# Altium schematic symbol library dungvh03-CERN_AnalogInterface.SchLib: 1053 symbols (part 12 of 12)
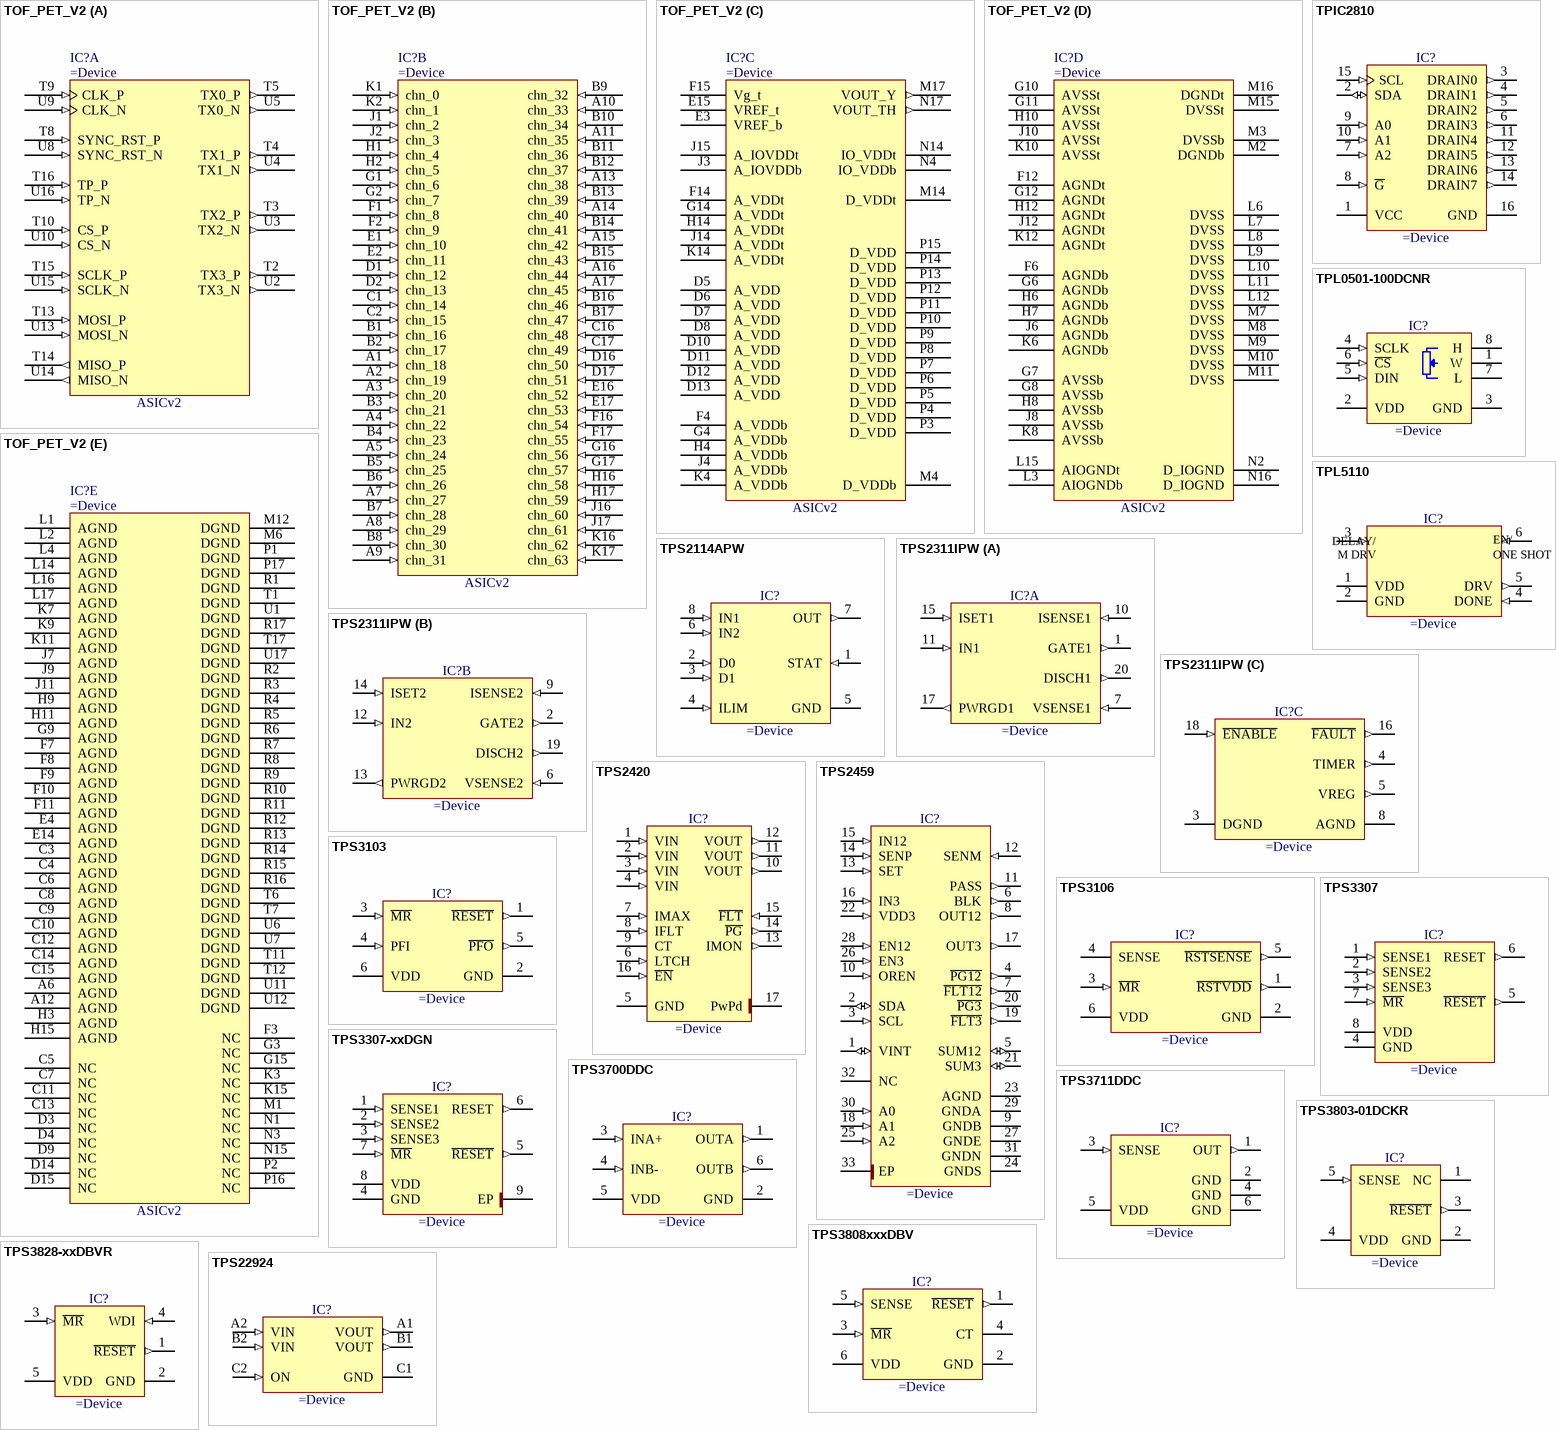
[diagram p78: symbols TOF_PET_V2 to TPS22924]

## TOF_PET_V2
designator IC?
ASIC for Reading SIPMs
part A pins: T2 TX3_P (out), T3 TX2_P (out), T4 TX1_P (out), T5 TX0_P (out), T8 SYNC_RST_P (in), T9 CLK_P (in), T10 CS_P (in), T13 MOSI_P (in), T14 MISO_P (out), T15 SCLK_P (in), T16 TP_P (in), U2 TX3_N (out), U3 TX2_N (out), U4 TX1_N (out), U5 TX0_N (out), U8 SYNC_RST_N (in), U9 CLK_N (in), U10 CS_N (in), U13 MOSI_N (in), U14 MISO_N (out), U15 SCLK_N (in), U16 TP_N (in)
part B pins: A1 chn_18 (in), A2 chn_19 (in), A3 chn_20 (in), A4 chn_22 (in), A5 chn_24 (in), A7 chn_27 (in), A8 chn_29 (in), A9 chn_31 (in), A10 chn_33 (in), A11 chn_35 (in), A13 chn_38 (in), A14 chn_40 (in), A15 chn_42 (in), A16 chn_44 (in), A17 chn_45 (in), B1 chn_16 (in), B2 chn_17 (in), B3 chn_21 (in), B4 chn_23 (in), B5 chn_25 (in), B6 chn_26 (in), B7 chn_28 (in), B8 chn_30 (in), B9 chn_32 (in), B10 chn_34 (in), B11 chn_36 (in), B12 chn_37 (in), B13 chn_39 (in), B14 chn_41 (in), B15 chn_43 (in), B16 chn_46 (in), B17 chn_47 (in), C1 chn_14 (in), C2 chn_15 (in), C16 chn_48 (in), C17 chn_49 (in), D1 chn_12 (in), D2 chn_13 (in), D16 chn_50 (in), D17 chn_51 (in), E1 chn_10 (in), E2 chn_11 (in), E16 chn_52 (in), E17 chn_53 (in), F1 chn_8 (in), F2 chn_9 (in), F16 chn_54 (in), F17 chn_55 (in), G1 chn_6 (in), G2 chn_7 (in), G16 chn_56 (in), G17 chn_57 (in), H1 chn_4 (in), H2 chn_5 (in), H16 chn_58 (in), H17 chn_59 (in), J1 chn_2 (in), J2 chn_3 (in), J16 chn_60 (in), J17 chn_61 (in), K1 chn_0 (in), K2 chn_1 (in), K16 chn_62 (in), K17 chn_63 (in)
part C pins: D5 A_VDD (power), D6 A_VDD (power), D7 A_VDD (power), D8 A_VDD (power), D10 A_VDD (power), D11 A_VDD (power), D12 A_VDD (power), D13 A_VDD (power), E3 VREF_b (power), E15 VREF_t (power), F4 A_VDDb (power), F14 A_VDDt (power), F15 Vg_t (power), G4 A_VDDb (power), G14 A_VDDt (power), H4 A_VDDb (power), H14 A_VDDt (power), J3 A_IOVDDb (power), J4 A_VDDb (power), J14 A_VDDt (power), J15 A_IOVDDt (power), K4 A_VDDb (power), K14 A_VDDt (power), M4 D_VDDb (power), M14 D_VDDt (power), M17 VOUT_Y (out), N4 IO_VDDb (power), N14 IO_VDDt (power), N17 VOUT_TH (out), P3 D_VDD (power), P4 D_VDD (power), P5 D_VDD (power), P6 D_VDD (power), P7 D_VDD (power), P8 D_VDD (power), P9 D_VDD (power), P10 D_VDD (power), P11 D_VDD (power), P12 D_VDD (power), P13 D_VDD (power), P14 D_VDD (power), P15 D_VDD (power)
part D pins: F6 AGNDb (power), F12 AGNDt (power), G6 AGNDb (power), G7 AVSSb (power), G8 AVSSb (power), G10 AVSSt (power), G11 AVSSt (power), G12 AGNDt (power), H6 AGNDb (power), H7 AGNDb (power), H8 AVSSb (power), H10 AVSSt (power), H12 AGNDt (power), J6 AGNDb (power), J8 AVSSb (power), J10 AVSSt (power), J12 AGNDt (power), K6 AGNDb (power), K8 AVSSb (power), K10 AVSSt (power), K12 AGNDt (power), L3 AIOGNDb (power), L6 DVSS (power), L7 DVSS (power), L8 DVSS (power), L9 DVSS (power), L10 DVSS (power), L11 DVSS (power), L12 DVSS (power), L15 AIOGNDt (power), M2 DGNDb (power), M3 DVSSb (power), M7 DVSS (power), M8 DVSS (power), M9 DVSS (power), M10 DVSS (power), M11 DVSS (power), M15 DVSSt (power), M16 DGNDt (power), N2 D_IOGND (power), N16 D_IOGND (power)
part E pins: A6 AGND (power), A12 AGND (power), C3 AGND (power), C4 AGND (power), C5 NC, C6 AGND (power), C7 NC, C8 AGND (power), C9 AGND (power), C10 AGND (power), C11 NC, C12 AGND (power), C13 NC, C14 AGND (power), C15 AGND (power), D3 NC, D4 NC, D9 NC, D14 NC, D15 NC, E4 AGND (power), E14 AGND (power), F3 NC, F7 AGND (power), F8 AGND (power), F9 AGND (power), F10 AGND (power), F11 AGND (power), G3 NC, G9 AGND (power), G15 NC, H3 AGND (power), H9 AGND (power), H11 AGND (power), H15 AGND (power), J7 AGND (power), J9 AGND (power), J11 AGND (power), K3 NC, K7 AGND (power), K9 AGND (power), K11 AGND (power), K15 NC, L1 AGND (power), L2 AGND (power), L4 AGND (power), L14 AGND (power), L16 AGND (power), L17 AGND (power), M1 NC, M6 DGND (power), M12 DGND (power), N1 NC, N3 NC, N15 NC, P1 DGND (power), P2 NC, P16 NC, P17 DGND (power), R1 DGND (power), R2 DGND (power), R3 DGND (power), R4 DGND (power), R5 DGND (power), R6 DGND (power), R7 DGND (power), R8 DGND (power), R9 DGND (power), R10 DGND (power), R11 DGND (power), R12 DGND (power), R13 DGND (power), R14 DGND (power), R15 DGND (power), R16 DGND (power), R17 DGND (power), T1 DGND (power), T6 DGND (power), T7 DGND (power), T11 DGND (power), T12 DGND (power), T17 DGND (power), U1 DGND (power), U6 DGND (power), U7 DGND (power), U11 DGND (power), U12 DGND (power), U17 DGND (power)
part A text: ASICv2
part B text: ASICv2
part C text: ASICv2
part D text: ASICv2
part E text: ASICv2

## TPIC2810
designator IC?
8-Bit LED Driver With I2C Interface
pins: 1 VCC (power) "Positive Power Supply Input.", 2 SDA (io) "Digital I/O. Bidirectional open drain data line. External pull-up resistor required.", 3 DRAIN0 (out) "Can be inputs or outputs.", 4 DRAIN1 (out) "Can be inputs or outputs.", 5 DRAIN2 (out) "Can be inputs or outputs.", 6 DRAIN3 (out) "Can be inputs or outputs.", 7 A2 (in) "Logic Input. Address pin that sets the third least significant bit of the 7-bit slave address.", 8 ~{G} (in) "Active Low Logic Input. When this pin is low, all switches are open, and appropriate registers are cleared to 0.", 9 A0 (in) "Logic Input. Address pin that sets the least significant bit of the 7-bit slave address.", 10 A1 (in) "Logic Input. Address pin that sets the second least significant bit of the 7-bit slave address.", 11 DRAIN4 (out) "Can be inputs or outputs.", 12 DRAIN5 (out) "Can be inputs or outputs.", 13 DRAIN6 (out) "Can be inputs or outputs.", 14 DRAIN7 (out) "Can be inputs or outputs.", 15 SCL (in) "Digital Input, Serial Clock Line. Open drain input that is used in conjunction with SDA to clock data into the device. External pull-up resistor required.", 16 GND (power) "Ground. Reference point for all circuitry on the ADG2188."

## TPL0501-100DCNR
designator IC?
256-tap, 100k, Single Channel Potentiometer with SPI Interface
pins: 1 W, 2 VDD (power), 3 GND (power), 4 SCLK (in), 5 DIN (in), 6 ~{CS} (in), 7 L, 8 H

## TPL5110
designator IC?
Nano-power System Timer for Power Gating
pins: 1 VDD (power), 2 GND (power), 3 DELAY/ (in), 4 DONE (in), 5 DRV (out), 6 EN/ (in)
text: M DRV; ONE SHOT

## TPS2114APW
designator IC?
Autoswitching Power Mux
pins: 1 STAT (in), 2 D0 (in), 3 D1 (in), 4 ILIM (in), 5 GND (power), 6 IN2 (in), 7 OUT (out), 8 IN1 (in)

## TPS2311IPW
designator IC?
Dual Hot-Swao Power Controller With Interdependent Circuit Breaker and Power-Good Reporting
part A pins: 1 GATE1 (out), 7 VSENSE1 (in), 10 ISENSE1 (in), 11 IN1 (in), 15 ISET1 (in), 17 PWRGD1 (out), 20 DISCH1 (out)
part B pins: 2 GATE2 (out), 6 VSENSE2 (in), 9 ISENSE2 (in), 12 IN2 (in), 13 PWRGD2 (out), 14 ISET2 (in), 19 DISCH2 (out)
part C pins: 3 DGND (power), 4 TIMER (out), 5 VREG (out), 8 AGND (power), 16 ~{FAULT} (out), 18 ~{ENABLE} (in)

## TPS2420
designator IC?
3 V to 20 V, Integrated FET Hot Swao Controller
pins: 1 VIN (in), 2 VIN (in), 3 VIN (in), 4 VIN (in), 5 GND (power), 6 LTCH (in), 7 IMAX (in), 8 IFLT (in), 9 CT, 10 VOUT (out), 11 VOUT (out), 12 VOUT (out), 13 IMON (out), 14 ~{PG} (out), 15 ~{FLT} (in), 16 ~{EN} (in), 17 PwPd (power)

## TPS2459
designator IC?
12V/3.3V Hot Swap and ORing Controller with I2C and Load Current Monitor for AdvancedMC
pins: 1 VINT (io), 2 SDA (io), 3 SCL (in), 4 ~{PG12} (out), 5 SUM12 (io), 6 BLK (out), 7 ~{FLT12} (out), 8 OUT12 (out), 9 GNDB (power), 10 OREN (in), 11 PASS (out), 12 SENM (in), 13 SET (in), 14 SENP (in), 15 IN12 (in), 16 IN3 (in), 17 OUT3 (out), 18 A1 (in), 19 ~{FLT3} (out), 20 ~{PG3} (out), 21 SUM3 (io), 22 VDD3 (in), 23 AGND (power), 24 GNDS (power), 25 A2 (in), 26 EN3 (in), 27 GNDE (power), 28 EN12 (in), 29 GNDA (power), 30 A0 (in), 31 GNDN (power), 32 NC, 33 EP (power)

## TPS3103
designator IC?
UltraLow Supply-Current/Supply-Voltage Supervisory Circuits
pins: 1 ~{RESET} (out), 2 GND (power), 3 ~{MR} (in), 4 PFI (in), 5 ~{PFO} (out), 6 VDD (power)

## TPS3106
designator IC?
UltraLow Supply-Current/Supply-Voltage Supervisory Circuits
pins: 1 ~{RSTVDD} (out), 2 GND (power), 3 ~{MR} (in), 4 SENSE, 5 ~{RSTSENSE} (out), 6 VDD (power)

## TPS3307
designator IC?
Triple Processor Supervisors
pins: 1 SENSE1 (in), 2 SENSE2 (in), 3 SENSE3 (in), 4 GND (power), 5 ~{RESET} (out), 6 RESET (out), 7 ~{MR} (in), 8 VDD (power)

## TPS3307-xxDGN
designator IC?
Triple Processor Supervisors
pins: 1 SENSE1 (in), 2 SENSE2 (in), 3 SENSE3 (in), 4 GND (power), 5 ~{RESET} (out), 6 RESET (out), 7 ~{MR} (in), 8 VDD (power), 9 EP (power)

## TPS3700DDC
designator IC?
Window Comparator for Over- and Undervoltage Detection
pins: 1 OUTA (out), 2 GND (power), 3 INA+ (in), 4 INB- (in), 5 VDD (power), 6 OUTB (out)

## TPS3711DDC
designator IC?
36V Voltage Detector
pins: 1 OUT (out), 2 GND (power), 3 SENSE (in), 4 GND (power), 5 VDD (power), 6 GND (power)

## TPS3803-01DCKR
designator IC?
Single Voltage Detector
pins: 1 NC, 2 GND (power), 3 ~{RESET} (out), 4 VDD (power), 5 SENSE (in)

## TPS3808xxxDBV
designator IC?
Low Quiescent Current, Programmable-Delay Supervisory Circuit
pins: 1 ~{RESET} (out), 2 GND (power), 3 ~{MR} (in), 4 CT, 5 SENSE (in), 6 VDD (power)

## TPS3828-xxDBVR
designator IC?
Processor Supervisory Circuit
pins: 1 ~{RESET} (out), 2 GND (power), 3 ~{MR} (in), 4 WDI (in), 5 VDD (power)

## TPS22924
designator IC?
3.6-V, 2-A, 18.3 mOhms On-Resistance Load Switch
pins: A1 VOUT (out), A2 VIN (in), B1 VOUT (out), B2 VIN (in), C1 GND (power), C2 ON (in)

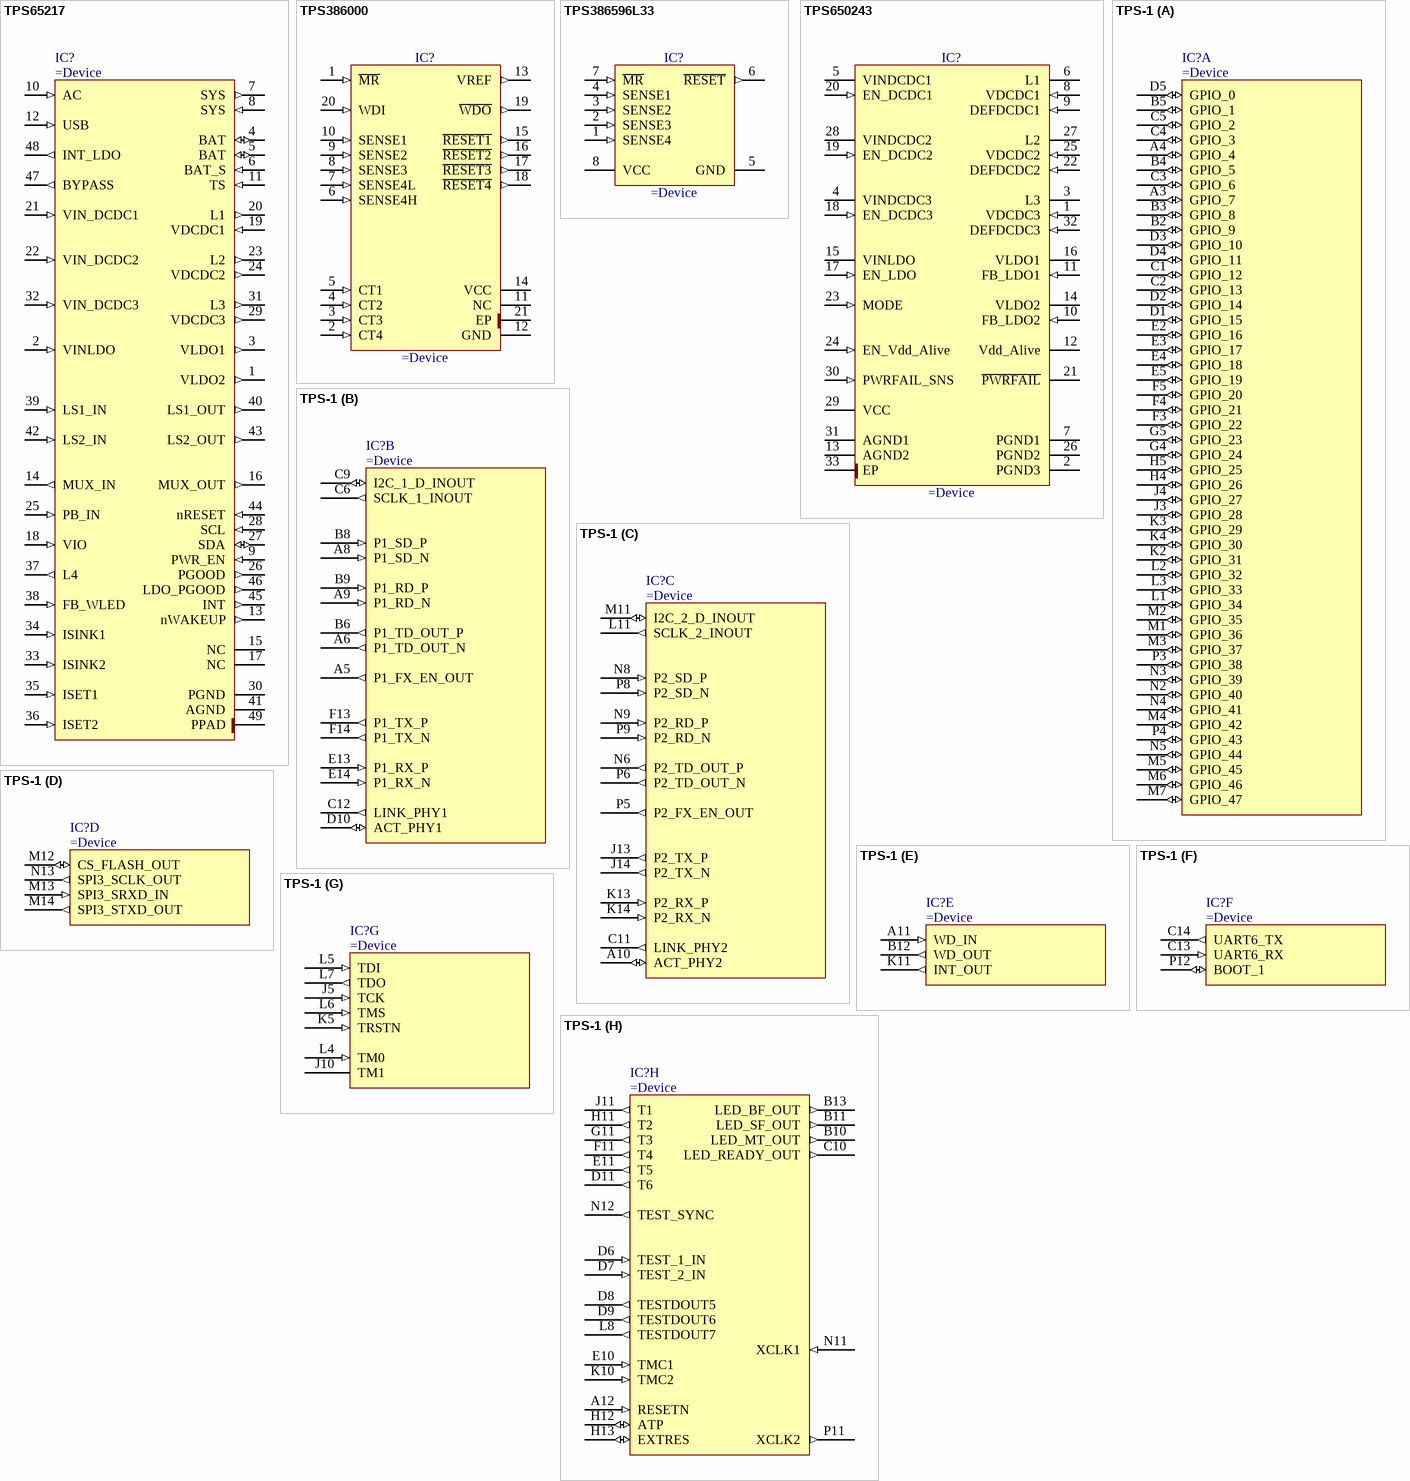
[diagram p63: symbols TPS65217 to TPS-1]

## TPS65217
designator IC?
Single Chip Power Solution for Battery Powered Systems
pins: 1 VLDO2 (out), 2 VINLDO (in), 3 VLDO1 (out), 4 BAT (io), 5 BAT (io), 6 BAT_S (in), 7 SYS (out), 8 SYS (in), 9 PWR_EN (in), 10 AC (in), 11 TS (in), 12 USB (in), 13 nWAKEUP (out), 14 MUX_IN (out), 15 NC, 16 MUX_OUT (out), 17 NC, 18 VIO (in), 19 VDCDC1 (in), 20 L1 (out), 21 VIN_DCDC1 (in), 22 VIN_DCDC2 (in), 23 L2 (out), 24 VDCDC2 (out), 25 PB_IN (in), 26 PGOOD (out), 27 SDA (io), 28 SCL (in), 29 VDCDC3 (out), 30 PGND (power), 31 L3 (out), 32 VIN_DCDC3 (in), 33 ISINK2 (in), 34 ISINK1 (in), 35 ISET1 (in), 36 ISET2 (in), 37 L4 (out), 38 FB_WLED (in), 39 LS1_IN (in), 40 LS1_OUT (out), 41 AGND (power), 42 LS2_IN (in), 43 LS2_OUT (out), 44 nRESET (in), 45 INT (out), 46 LDO_PGOOD (out), 47 BYPASS (out), 48 INT_LDO (out), 49 PPAD (power)
1 alternate drawing of the same symbol

## TPS386000
designator IC?
Quad Supply Voltage Supervisors with Programmable Delay and Watchdog Timer
pins: 1 ~{MR} (in), 2 CT4 (in), 3 CT3 (in), 4 CT2 (in), 5 CT1 (in), 6 SENSE4H (in), 7 SENSE4L (in), 8 SENSE3 (in), 9 SENSE2 (in), 10 SENSE1 (in), 11 NC, 12 GND (power), 13 VREF (out), 14 VCC (power), 15 ~{RESET1} (out), 16 ~{RESET2} (out), 17 ~{RESET3} (out), 18 ~{RESET4} (out), 19 ~{WDO} (out), 20 WDI (in), 21 EP (power)

## TPS386596L33
designator IC?
Quad Reset Supervisor with Manual Reset Input
pins: 1 SENSE4 (in), 2 SENSE3 (in), 3 SENSE2 (in), 4 SENSE1 (in), 5 GND (power), 6 ~{RESET} (out), 7 ~{MR} (in), 8 VCC (power)

## TPS650243
designator IC?
Power Management IC for Li-Ion Powered Systems
pins: 1 VDCDC3 (in) "VDCDC3 feedback voltage sense input, connect directly to VDCDC3", 2 PGND3 (power) "Power ground for VDCDC3 converter", 3 L3 (power) "Switch pin of VDCDC3 converter. The VDCDC3 inductor is connected here", 4 VINDCDC3 (power) "Input voltage for VDCDC3 step-down converter. This must be connected to the same voltage supply as VINDCDC2, VINDCDC3 and VCC", 5 VINDCDC1 (power) "Input voltage for VDCDC1 step-down converter. This must be connected to the same voltage supply as VINDCDC2, VINDCDC3 and VCC", 6 L1 (power) "Switch pin of VDCDC1 converter. The VDCDC1 inductor is connected here.", 7 PGND1 (power) "Power ground for VDCDC1 converter", 8 VDCDC1 (in) "VDCDC1 feedback voltage sense input, connect directly to VDCDC1", 9 DEFDCDC1 (in) "Input signal indicating default VDCDC1 voltage, 0 = 2.80V, 1 = 3.3V This pin can also be connected to a resistor divider between VDCDC1 and GND. In this case the output voltage of the DCDC1 converter can be set in a range (See Datasheet)", 10 FB_LDO2 (in) "Feedback pin for LDO2", 11 FB_LDO1 (in) "Feedback pin for LDO1", 12 Vdd_Alive (power) "Output voltage for Vdd_alive", 13 AGND2 (power) "Analog ground connection. All analog ground pins are connected internally on the chip.", 14 VLDO2 (power) "Output voltage of LDO2", 15 VINLDO (power) "Input voltage for LDO1 and LDO2", 16 VLDO1 (power) "Output voltage of LDO1", 17 EN_LDO (in) "Enable input for LDO1 and LDO2. Logic high enables the LDOs, logic low disables the LDOs", 18 EN_DCDC3 (in) "VDCDC3 enable pin. A logic high enables the regulator, a logic low disables the regulator.", 19 EN_DCDC2 (in) "VDCDC2 enable pin. A logic high enables the regulator, a logic low disables the regulator.", 20 EN_DCDC1 (in) "VDCDC1 enable pin. A logic high enables the regulator, a logic low disables the regulator.", 21 ~{PWRFAIL} (oc) "Open drain output. Active low when PWRFAIL comparator indicates low VBAT condition", 22 DEFDCDC2 (in) "Input signal indicating default VDCDC2 voltage, 0=1.8V, 1=2.5V This pin can also be connected to a resistor divider between VDCDC2 and GND. In this case the output voltage of the DCDC2 converter can be set in a range from 0.(See Datasheet)", 23 MODE (in) "Select between Power Safe Mode and forced PWM Mode for DCDC1, DCDC2 and DCDC3. In Power Safe Mode PFM is used at light loads, PWM for higher loads. If PIN is set to high level, forced PWM Mode is selected. If Pin has low (See Datasheet)", 24 EN_Vdd_Alive (in) "Enable input for Vdd_alive LDO. Logic high enables the LDO, logic low disables the LDO", 25 VDCDC2 (in) "VDCDC2 feedback voltage sense input, connect directly to VDCDC2", 26 PGND2 (power) "Power ground for VDCDC2 converter", 27 L2 (power) "Switch pin of VDCDC2 converter. The VDCDC2 inductor is connected here", 28 VINDCDC2 (power) "Input voltage for VDCDC2 step-down converter. This must be connected to the same voltage supply as VINDCDC1, VINDCDC3 and VCC.", 29 VCC (power) "Power supply for digital and analog circuitry of DCDC1, DCDC2 and DCDC3 DC-DC converters. This must be connected to the same voltage supply as VINDCDC3, VINDCDC1 and VINDCDC2", 30 PWRFAIL_SNS (in) "Input for the comparator driving the /PWRFAIL output", 31 AGND1 (power) "Analog ground connection. All analog ground pins are connected internally on the chip.", 32 DEFDCDC3 (in) "Input signal indicating VDCDC3 voltage.TPS650243: 0 = 1.0V, 1 = 1.2V", 33 EP (power) "Connect the power pad to analog ground."

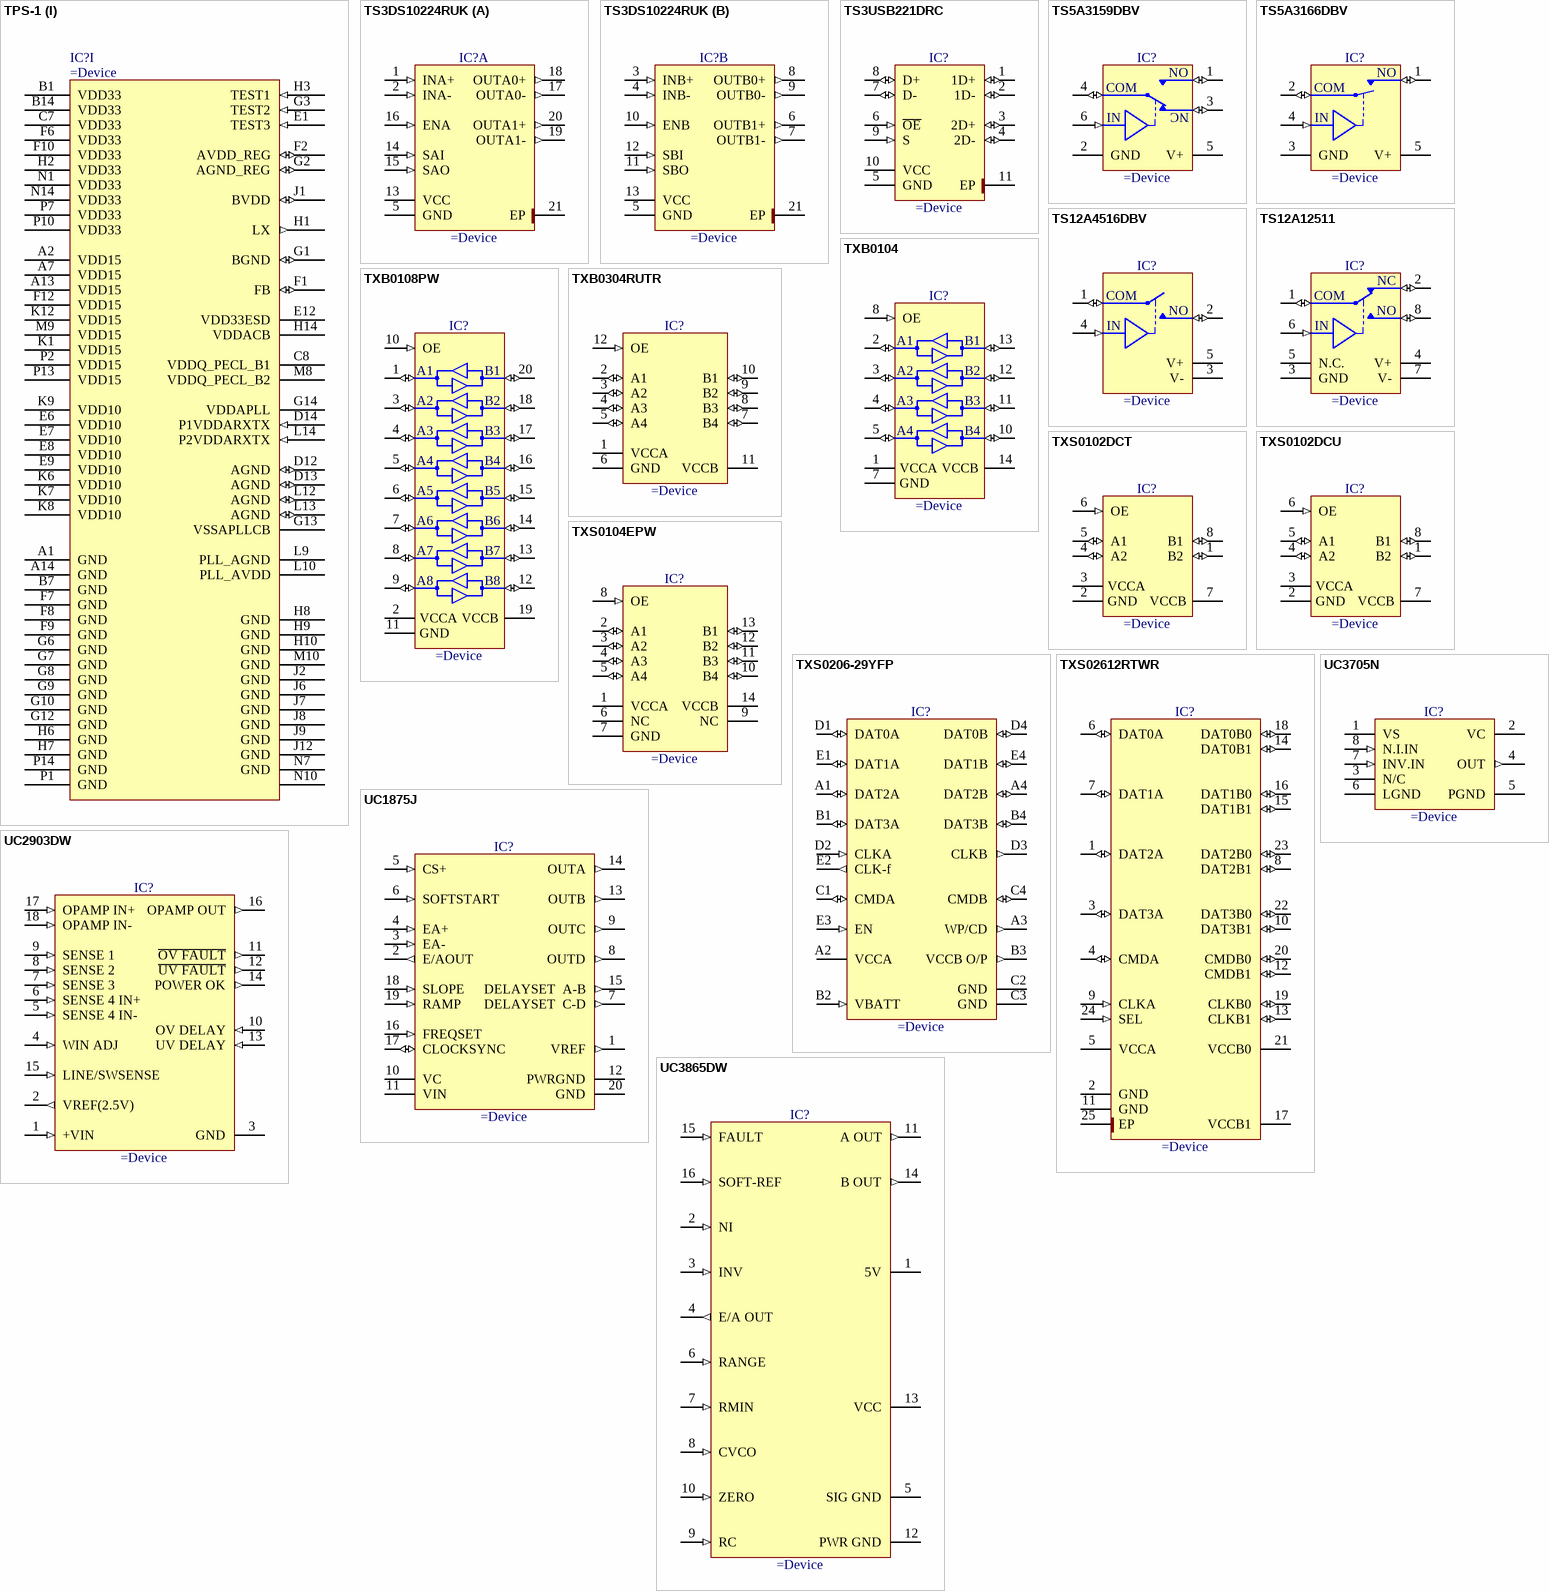
[diagram p64: symbols TPS-1 to UC3865DW]

## TPS-1
designator IC?
Single Chip Interface Solution for PROFINET IO Devices
part A pins: A3 GPIO_7 (io), A4 GPIO_4 (io), B2 GPIO_9 (io), B3 GPIO_8 (io), B4 GPIO_5 (io), B5 GPIO_1 (io), C1 GPIO_12 (io), C2 GPIO_13 (io), C3 GPIO_6 (io), C4 GPIO_3 (io), C5 GPIO_2 (io), D1 GPIO_15 (io), D2 GPIO_14 (io), D3 GPIO_10 (io), D4 GPIO_11 (io), D5 GPIO_0 (io), E2 GPIO_16 (io), E3 GPIO_17 (io), E4 GPIO_18 (io), E5 GPIO_19 (io), F3 GPIO_22 (io), F4 GPIO_21 (io), F5 GPIO_20 (io), G4 GPIO_24 (io), G5 GPIO_23 (io), H4 GPIO_26 (io), H5 GPIO_25 (io), J3 GPIO_28 (io), J4 GPIO_27 (io), K2 GPIO_31 (io), K3 GPIO_29 (io), K4 GPIO_30 (io), L1 GPIO_34 (io), L2 GPIO_32 (io), L3 GPIO_33 (io), M1 GPIO_36 (io), M2 GPIO_35 (io), M3 GPIO_37 (io), M4 GPIO_42 (io), M5 GPIO_45 (io), M6 GPIO_46 (io), M7 GPIO_47 (io), N2 GPIO_40 (io), N3 GPIO_39 (io), N4 GPIO_41 (io), N5 GPIO_44 (io), P3 GPIO_38 (io), P4 GPIO_43 (io)
part B pins: A5 P1_FX_EN_OUT (out), A6 P1_TD_OUT_N (out), A8 P1_SD_N (in), A9 P1_RD_N (in), B6 P1_TD_OUT_P (out), B8 P1_SD_P (in), B9 P1_RD_P (in), C6 SCLK_1_INOUT (out), C9 I2C_1_D_INOUT (io), C12 LINK_PHY1 (out), D10 ACT_PHY1 (io), E13 P1_RX_P (in), E14 P1_RX_N (in), F13 P1_TX_P (out), F14 P1_TX_N (out)
part C pins: A10 ACT_PHY2 (io), C11 LINK_PHY2 (out), J13 P2_TX_P (out), J14 P2_TX_N (out), K13 P2_RX_P (in), K14 P2_RX_N (in), L11 SCLK_2_INOUT (out), M11 I2C_2_D_INOUT (io), N6 P2_TD_OUT_P (out), N8 P2_SD_P (in), N9 P2_RD_P (in), P5 P2_FX_EN_OUT (out), P6 P2_TD_OUT_N (out), P8 P2_SD_N (in), P9 P2_RD_N (in)
part D pins: M12 CS_FLASH_OUT (io), M13 SPI3_SRXD_IN (in), M14 SPI3_STXD_OUT (out), N13 SPI3_SCLK_OUT (out)
part E pins: A11 WD_IN (in), B12 WD_OUT (out), K11 INT_OUT (out)
part F pins: C13 UART6_RX (in), C14 UART6_TX (out), P12 BOOT_1 (io)
part G pins: J5 TCK (in), J10 TM1 (power), K5 TRSTN (in), L4 TM0 (in), L5 TDI (in), L6 TMS (in), L7 TDO (out)
part H pins: A12 RESETN (in), B10 LED_MT_OUT (out), B11 LED_SF_OUT (out), B13 LED_BF_OUT (out), C10 LED_READY_OUT (out), D6 TEST_1_IN (in), D7 TEST_2_IN (in), D8 TESTDOUT5 (out), D9 TESTDOUT6 (out), D11 T6 (out), E10 TMC1 (in), E11 T5 (out), F11 T4 (out), G11 T3 (out), H11 T2 (out), H12 ATP (io), H13 EXTRES (io), J11 T1 (out), K10 TMC2 (in), L8 TESTDOUT7 (out), N11 XCLK1 (in), N12 TEST_SYNC (out), P11 XCLK2 (out)
part I pins: A1 GND (power), A2 VDD15 (power), A7 VDD15 (power), A13 VDD15 (power), A14 GND (power), B1 VDD33 (power), B7 GND (power), B14 VDD33 (power), C7 VDD33 (power), C8 VDDQ_PECL_B1 (power), D12 AGND (io), D13 AGND (io), D14 P1VDDARXTX (in), E1 TEST3 (in), E6 VDD10 (power), E7 VDD10 (power), E8 VDD10 (power), E9 VDD10 (power), E12 VDD33ESD (power), F1 FB (io), F2 AVDD_REG (io), F6 VDD33 (power), F7 GND (power), F8 GND (power), F9 GND (power), F10 VDD33 (power), F12 VDD15 (power), G1 BGND (io), G2 AGND_REG (io), G3 TEST2 (in), G6 GND (power), G7 GND (power), G8 GND (power), G9 GND (power), G10 GND (power), G12 GND (power), G13 VSSAPLLCB (power), G14 VDDAPLL (power), H1 LX (out), H2 VDD33 (power), H3 TEST1 (in), H6 GND (power), H7 GND (power), H8 GND (power), H9 GND (power), H10 GND (power), H14 VDDACB (power), J1 BVDD (io), J2 GND (power), J6 GND (power), J7 GND (power), J8 GND (power), J9 GND (power), J12 GND (power), K1 VDD15 (power), K6 VDD10 (power), K7 VDD10 (power), K8 VDD10 (power), K9 VDD10 (power), K12 VDD15 (power), L9 PLL_AGND (power), L10 PLL_AVDD (power), L12 AGND (io), L13 AGND (io), L14 P2VDDARXTX (in), M8 VDDQ_PECL_B2 (power), M9 VDD15 (power), M10 GND (power), N1 VDD33 (power), N7 GND (power), N10 GND (power), N14 VDD33 (power), P1 GND (power), P2 VDD15 (power), P7 VDD33 (power), P10 VDD33 (power), P13 VDD15 (power), P14 GND (power)

## TS3DS10224RUK
designator IC?
High-Speed Differential Crosspoint, 1:4 or 2 Channel 1:2 Differential Multiplexer and Demultiplexer, or Fan-Out Switch
pins on every part: 5 GND (power), 13 VCC (power), 21 EP (power)
part A pins: 1 INA+ (in), 2 INA- (in), 14 SAI (in), 15 SAO (in), 16 ENA (in), 17 OUTA0- (out), 18 OUTA0+ (out), 19 OUTA1- (out), 20 OUTA1+ (out)
part B pins: 3 INB+ (in), 4 INB- (in), 6 OUTB1+ (out), 7 OUTB1- (out), 8 OUTB0+ (out), 9 OUTB0- (out), 10 ENB (in), 11 SBO (in), 12 SBI (in)

## TS3USB221DRC
designator IC?
High-Speed USB 2.0 (480-Mbps) 1:2 Multiplexer/Demultiplexer Switch With Single Enable
pins: 1 1D+ (io), 2 1D- (io), 3 2D+ (io), 4 2D- (io), 5 GND (power), 6 ~{OE} (in), 7 D- (io), 8 D+ (io), 9 S (in), 10 VCC (power), 11 EP (power)

## TS5A3159DBV
designator IC?
1-Ω SPDT Analog Switch
pins: 1 NO (io), 2 GND (power), 3 NC (io), 4 COM (io), 5 V+ (power), 6 IN (in)

## TS5A3166DBV
designator IC?
0.9-Ω SPST Analog Switch
pins: 1 NO (io), 2 COM (io), 3 GND (power), 4 IN (in), 5 V+ (power)

## TS12A4516DBV
designator IC?
Dual Supply, Low On-State Resistance SPST CMOS Analog Switches
pins: 1 S (io), 2 NO (io), 3 V- (power), 4 IN (in), 5 V+ (power)
text: COM

## TS12A12511
designator IC?
±6V/+12V, 5 Ohm, Low Ron Single SPDT CMOS Analog Switch
pins: 1 S (io), 2 NC (io), 3 GND (power), 4 V+ (power), 5 N.C. (power), 6 IN (in), 7 V- (power), 8 NO (io)
text: COM

## TXB0104
designator IC?
4-Bit Bidirectionnal Voltage-Level Translator
pins: 1 Vcca (power) "A-port supply voltage", 2 A1 (io) "Input/output 1", 3 A2 (io) "Input/output 2", 4 A3 (io) "Input/output 3", 5 A4 (io) "Input/output 4", 7 GND (power) "Ground", 8 OE (in) "3-state output-mode enable", 10 B4 (io) "Input/output 4", 11 B3 (io) "Input/output 3", 12 B2 (io) "Input/output 2", 13 B1 (io) "Input/output 1", 14 Vccb (power) "B-port supply voltage"
text: VCCA; VCCB

## TXB0108PW
designator IC?
8-Bit Bidirectional Voltage-Level Translator with Automatic Direction Sensing and ±15kV ESD Protection
pins: 1 A1 (io) "Input/output 1", 2 Vcca (power) "A-port supply voltage", 3 A2 (io) "Input/output 2", 4 A3 (io) "Input/output 3", 5 A4 (io) "Input/output 4", 6 A5 (io) "Input/output 1", 7 A6 (io) "Input/output 2", 8 A7 (io) "Input/output 3", 9 A8 (io) "Input/output 4", 10 OE (in) "3-state output-mode enable", 11 GND (power) "Ground", 12 B8 (io) "Input/output 4", 13 B7 (io) "Input/output 3", 14 B6 (io) "Input/output 2", 15 B5 (io) "Input/output 1", 16 B4 (io) "Input/output 4", 17 B3 (io) "Input/output 3", 18 B2 (io) "Input/output 2", 19 Vccb (power) "B-port supply voltage", 20 B1 (io) "Input/output 1"
text: VCCA; VCCB

## TXB0304RUTR
designator IC?
4-bit Bidirectional Auto-direction Sensing Translator with Fully Symmetric 0.9V to 3.6V Range
pins: 1 VCCA (power) "Input/output 2", 2 A1 (io) "Ground", 3 A2 (io) "A-port supply voltage", 4 A3 (io) "Input/output 2", 5 A4 (io) "Input/output 1", 6 GND (power) "3-state output-mode enable", 7 B4 (io) "B-port supply voltage", 8 B3 (io) "Input/output 1", 9 B2 (io), 10 B1 (io), 11 VCCB (power), 12 OE (in)

## TXS0102DCT
designator IC?
2-Bit Bidirectionnal Voltage-Level Translator for Open-Drain And Push-Pull Applications
pins: 1 B2 (io) "Input/output 2", 2 GND (power) "Ground", 3 Vcca (power) "A-port supply voltage", 4 A2 (io) "Input/output 2", 5 A1 (io) "Input/output 1", 6 OE (in) "3-state output-mode enable", 7 Vccb (power) "B-port supply voltage", 8 B1 (io) "Input/output 1"
text: VCCA; VCCB

## TXS0102DCU
designator IC?
2-Bit Bidirectionnal Voltage-Level Translator for Open-Drain And Push-Pull Applications
pins: 1 B2 (io) "Input/output 2", 2 GND (power) "Ground", 3 Vcca (power) "A-port supply voltage", 4 A2 (io) "Input/output 2", 5 A1 (io) "Input/output 1", 6 OE (in) "3-state output-mode enable", 7 Vccb (power) "B-port supply voltage", 8 B1 (io) "Input/output 1"
text: VCCA; VCCB

## TXS0104EPW
designator IC?
4-Bit Bidirectional Voltage-Level Translator For Open-Drain And Push-Pull Applications
pins: 1 VCCA (power) "A-port supply voltage", 2 A1 (io) "Input/output 1", 3 A2 (io) "Input/output 2", 4 A3 (io) "Input/output 1", 5 A4 (io) "Input/output 2", 6 NC "Ground", 7 GND (power) "Ground", 8 OE (in) "3-state output-mode enable", 9 NC "Ground", 10 B4 (io) "Input/output 2", 11 B3 (io) "Input/output 1", 12 B2 (io) "Input/output 2", 13 B1 (io) "Input/output 1", 14 VCCB (power) "B-port supply voltage"

## TXS0206-29YFP
designator IC?
MMC, SD Card, Memory Stick™ Voltage-Translation Transceiver and LDO Voltage Regulator with ESD Protection and EMI Filtering
pins: A1 DAT2A (io), A2 VCCA (power), A3 WP/CD (out), A4 DAT2B (io), B1 DAT3A (io), B2 VBATT (in), B3 VCCB O/P (out), B4 DAT3B (io), C1 CMDA (io), C2 GND (power), C3 GND (power), C4 CMDB (io), D1 DAT0A (io), D2 CLKA (in), D3 CLKB (out), D4 DAT0B (io), E1 DAT1A (io), E2 CLK-f (out), E3 EN (in), E4 DAT1B (io)

## TXS02612RTWR
designator IC?
SDIO Port Expander With Voltage-Level Translation
pins: 1 DAT2A (io), 2 GND (power), 3 DAT3A (io), 4 CMDA (io), 5 VCCA (power), 6 DAT0A (io), 7 DAT1A (io), 8 DAT2B1 (io), 9 CLKA (in), 10 DAT3B1 (io), 11 GND (power), 12 CMDB1 (io), 13 CLKB1 (io), 14 DAT0B1 (io), 15 DAT1B1 (io), 16 DAT1B0 (io), 17 VCCB1 (power), 18 DAT0B0 (io), 19 CLKB0 (io), 20 CMDB0 (io), 21 VCCB0 (power), 22 DAT3B0 (io), 23 DAT2B0 (io), 24 SEL (in), 25 EP (power)

## UC1875J
designator IC?
Phase Shift Resonant Controller
pins: 1 VREF (out), 2 E/AOUT (out), 3 EA- (in), 4 EA+ (in), 5 CS+ (in), 6 SOFTSTART (in), 7 DELAYSET  C-D (out), 8 OUTD (out), 9 OUTC (out), 10 VC (power), 11 VIN (power), 12 PWRGND (power), 13 OUTB (out), 14 OUTA (out), 15 DELAYSET  A-B (out), 16 FREQSET (in), 17 CLOCKSYNC (io), 18 SLOPE (in), 19 RAMP (in), 20 GND (power)

## UC2903DW
designator IC?
Quad Supply and Line Monitor
pins: 1 +VIN (in), 2 VREF(2.5V) (out), 3 GND (power), 4 WIN ADJ (in), 5 SENSE 4 IN- (in), 6 SENSE 4 IN+ (in), 7 SENSE 3 (in), 8 SENSE 2 (in), 9 SENSE 1 (in), 10 OV DELAY (in), 11 ~{OV FAULT} (out), 12 ~{UV FAULT} (out), 13 UV DELAY (in), 14 POWER OK (out), 15 LINE/SWSENSE (in), 16 OPAMP OUT (out), 17 OPAMP IN+ (in), 18 OPAMP IN- (in)

## UC3705N
designator IC?
5V to 40V, 1.5A Source/Sink Drive, Complementary High Speed Power Driver
pins: 1 VS (power), 2 VC (power), 3 N/C, 4 OUT (out), 5 PGND (power), 6 LGND (power), 7 INV.IN (in), 8 N.I.IN (in)

## UC3865DW
designator IC?
Resonant-Mode Power Supply Controller
pins: 1 5V (power), 2 NI (in), 3 INV (in), 4 E/A OUT (out), 5 SIG GND (power), 6 RANGE (in), 7 RMIN (in), 8 CVCO (in), 9 RC (in), 10 ZERO (in), 11 A OUT (out), 12 PWR GND (power), 13 VCC (power), 14 B OUT (out), 15 FAULT (in), 16 SOFT-REF (in)

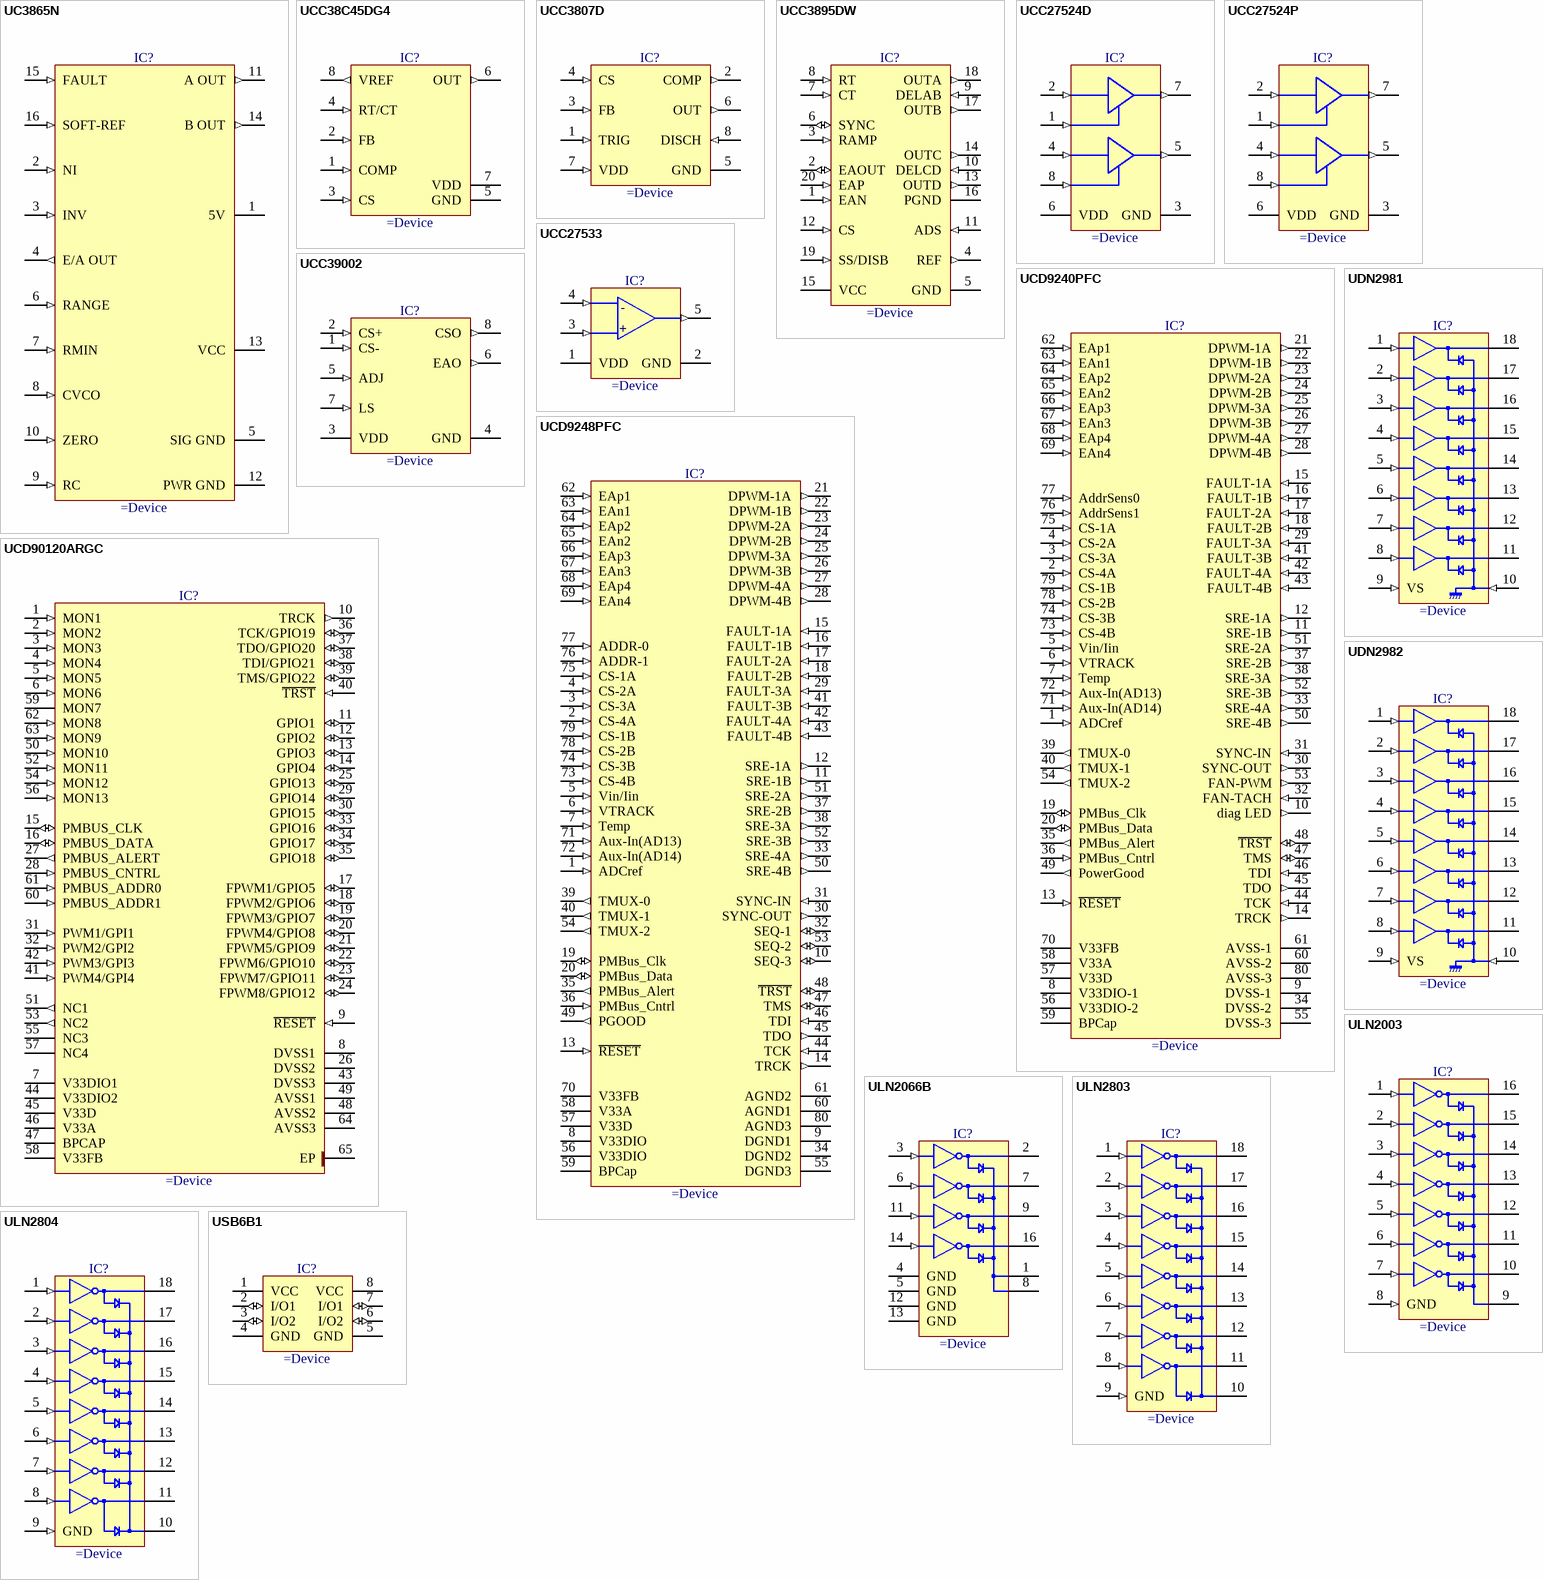
[diagram p65: symbols UC3865N to USB6B1]

## UC3865N
designator IC?
Resonant-Mode Power Supply Controller
pins: 1 5V (power), 2 NI (in), 3 INV (in), 4 E/A OUT (out), 5 SIG GND (power), 6 RANGE (in), 7 RMIN (in), 8 CVCO (in), 9 RC (in), 10 ZERO (in), 11 A OUT (out), 12 PWR GND (power), 13 VCC (power), 14 B OUT (out), 15 FAULT (in), 16 SOFT-REF (in)

## UCC38C45DG4
designator IC?
BiCMOS Low-Power Current-Mode PWM Controller
pins: 1 COMP (in), 2 FB (in), 3 CS (in), 4 RT/CT (in), 5 GND (power), 6 OUT (out), 7 VDD (power), 8 VREF (out)

## UCC3807D
designator IC?
Programmable Maximum Duty Cycle PWM Controller
pins: 1 TRIG (in), 2 COMP (out), 3 FB (in), 4 CS (in), 5 GND (power), 6 OUT (out), 7 VDD (in), 8 DISCH (in)

## UCC3895DW
designator IC?
BiCMOS Advenced Phase-Shift PWM Controller
pins: 1 EAN (in), 2 EAOUT (io), 3 RAMP (in), 4 REF (out), 5 GND (power), 6 SYNC (io), 7 CT (in), 8 RT (in), 9 DELAB (in), 10 DELCD (in), 11 ADS (in), 12 CS (in), 13 OUTD (out), 14 OUTC (out), 15 VCC (power), 16 PGND (power), 17 OUTB (out), 18 OUTA (out), 19 SS/DISB (in), 20 EAP (in)

## UCC27524D
designator IC?
Dual Non-Inverting Inputs Dual, 5A, High-Speed Low-Side Power MOSFET Driver
pins: 1 ENA (in), 2 INA (in), 3 GND (power), 4 INB (in), 5 OUTB (out), 6 VDD (power), 7 OUTA (out), 8 ENB (in)

## UCC27524P
designator IC?
Dual Non-Inverting Inputs 5A High-Speed, Low-Side Power MOSFET Driver
pins: 1 ENA (in), 2 INA (in), 3 GND (power), 4 INB (in), 5 OUTB (out), 6 VDD (power), 7 OUTA (out), 8 ENB (in)

## UCC27533
designator IC?
2.5A and 5A, 35Vmax VDD FET and IGBT Single-Gate Driver
pins: 1 VDD (power), 2 GND (power), 3 IN+ (in), 4 IN- (in), 5 OUT (out)
text: -; +

## UCC39002
designator IC?
Advanced 8-Pin Load-Share Controller
pins: 1 CS- (in), 2 CS+ (in), 3 VDD (power), 4 GND (power), 5 ADJ (in), 6 EAO (out), 7 LS (in), 8 CSO (out)

## UCD9240PFC
designator IC?
Digital PWM System Controller
pins: 1 ADCref (in), 2 CS-4A (in), 3 CS-3A (in), 4 CS-2A (in), 5 Vin/Iin (in), 6 VTRACK (in), 7 Temp (in), 8 V33DIO-1 (power), 9 DVSS-1 (power), 10 diag LED (out), 11 SRE-1B (out), 12 SRE-1A (out), 13 ~{RESET} (in), 14 TRCK (out), 15 FAULT-1A (in), 16 FAULT-1B (in), 17 FAULT-2A (in), 18 FAULT-2B (in), 19 PMBus_Clk (io), 20 PMBus_Data (io), 21 DPWM-1A (out), 22 DPWM-1B (out), 23 DPWM-2A (out), 24 DPWM-2B (out), 25 DPWM-3A (out), 26 DPWM-3B (out), 27 DPWM-4A (out), 28 DPWM-4B (out), 29 FAULT-3A (in), 30 SYNC-OUT (out), 31 SYNC-IN (in), 32 FAN-TACH (in), 33 SRE-4A (out), 34 DVSS-2 (power), 35 PMBus_Alert (out), 36 PMBus_Cntrl (in), 37 SRE-2B (out), 38 SRE-3A (out), 39 TMUX-0 (out), 40 TMUX-1 (out), 41 FAULT-3B (in), 42 FAULT-4A (in), 43 FAULT-4B (in), 44 TCK (in), 45 TDO (out), 46 TDI (in), 47 TMS (io), 48 ~{TRST} (io), 49 PowerGood (out), 50 SRE-4B (out), 51 SRE-2A (out), 52 SRE-3B (out), 53 FAN-PWM (out), 54 TMUX-2 (out), 55 DVSS-3 (power), 56 V33DIO-2 (power), 57 V33D (power), 58 V33A (power), 59 BPCap (power), 60 AVSS-2 (power), 61 AVSS-1 (power), 62 EAp1 (in), 63 EAn1 (in), 64 EAp2 (in), 65 EAn2 (in), 66 EAp3 (in), 67 EAn3 (in), 68 EAp4 (in), 69 EAn4 (in), 70 V33FB (power), 71 Aux-In(AD14) (in), 72 Aux-In(AD13) (in), 73 CS-4B (in), 74 CS-3B (in), 75 CS-1A (in), 76 AddrSens1 (in), 77 AddrSens0 (in), 78 CS-2B (in), 79 CS-1B (in), 80 AVSS-3 (power)

## UCD9248PFC
designator IC?
Digital PWM System Controller
pins: 1 ADCref (in), 2 CS-4A (in), 3 CS-3A (in), 4 CS-2A (in), 5 Vin/Iin (in), 6 VTRACK (in), 7 Temp (in), 8 V33DIO (power), 9 DGND1 (power), 10 SEQ-3 (io), 11 SRE-1B (out), 12 SRE-1A (out), 13 ~{RESET} (in), 14 TRCK (out), 15 FAULT-1A (in), 16 FAULT-1B (in), 17 FAULT-2A (in), 18 FAULT-2B (in), 19 PMBus_Clk (io), 20 PMBus_Data (io), 21 DPWM-1A (out), 22 DPWM-1B (out), 23 DPWM-2A (out), 24 DPWM-2B (out), 25 DPWM-3A (out), 26 DPWM-3B (out), 27 DPWM-4A (out), 28 DPWM-4B (out), 29 FAULT-3A (in), 30 SYNC-OUT (out), 31 SYNC-IN (in), 32 SEQ-1 (io), 33 SRE-4A (out), 34 DGND2 (power), 35 PMBus_Alert (out), 36 PMBus_Cntrl (in), 37 SRE-2B (out), 38 SRE-3A (out), 39 TMUX-0 (out), 40 TMUX-1 (out), 41 FAULT-3B (in), 42 FAULT-4A (in), 43 FAULT-4B (in), 44 TCK (in), 45 TDO (out), 46 TDI (in), 47 TMS (io), 48 ~{TRST} (io), 49 PGOOD (out), 50 SRE-4B (out), 51 SRE-2A (out), 52 SRE-3B (out), 53 SEQ-2 (io), 54 TMUX-2 (out), 55 DGND3 (power), 56 V33DIO (power), 57 V33D (power), 58 V33A (power), 59 BPCap (power), 60 AGND1 (power), 61 AGND2 (power), 62 EAp1 (in), 63 EAn1 (in), 64 EAp2 (in), 65 EAn2 (in), 66 EAp3 (in), 67 EAn3 (in), 68 EAp4 (in), 69 EAn4 (in), 70 V33FB (power), 71 Aux-In(AD13) (in), 72 Aux-In(AD14) (in), 73 CS-4B (in), 74 CS-3B (in), 75 CS-1A (in), 76 ADDR-1 (in), 77 ADDR-0 (in), 78 CS-2B (in), 79 CS-1B (in), 80 AGND3 (power)

## UCD90120ARGC
designator IC?
12-Rail Power Supply Sequencer and Monitor
pins: 1 MON1 (in), 2 MON2 (in), 3 MON3 (in), 4 MON4 (in), 5 MON5 (in), 6 MON6 (in), 7 V33DIO1 (power), 8 DVSS1 (power), 9 ~{RESET} (in), 10 TRCK (out), 11 GPIO1 (io), 12 GPIO2 (io), 13 GPIO3 (io), 14 GPIO4 (io), 15 PMBUS_CLK (io), 16 PMBUS_DATA (io), 17 FPWM1/GPIO5 (io), 18 FPWM2/GPIO6 (io), 19 FPWM3/GPIO7 (io), 20 FPWM4/GPIO8 (io), 21 FPWM5/GPIO9 (io), 22 FPWM6/GPIO10 (io), 23 FPWM7/GPIO11 (io), 24 FPWM8/GPIO12 (io), 25 GPIO13 (io), 26 DVSS2 (power), 27 PMBUS_ALERT (out), 28 PMBUS_CNTRL (in), 29 GPIO14 (io), 30 GPIO15 (io), 31 PWM1/GPI1 (in), 32 PWM2/GPI2 (in), 33 GPIO16 (io), 34 GPIO17 (io), 35 GPIO18 (io), 36 TCK/GPIO19 (io), 37 TDO/GPIO20 (io), 38 TDI/GPIO21 (io), 39 TMS/GPIO22 (io), 40 ~{TRST} (in), 41 PWM4/GPI4 (in), 42 PWM3/GPI3 (in), 43 DVSS3 (power), 44 V33DIO2 (power), 45 V33D (power), 46 V33A (power), 47 BPCAP (power), 48 AVSS2 (power), 49 AVSS1 (power), 50 MON10 (in), 51 NC1 (out), 52 MON11 (in), 53 NC2 (out), 54 MON12 (in), 55 NC3 (power), 56 MON13 (in), 57 NC4 (power), 58 V33FB (power), 59 MON7 (power), 60 PMBUS_ADDR1 (in), 61 PMBUS_ADDR0 (in), 62 MON8 (in), 63 MON9 (in), 64 AVSS3 (power), 65 EP (power)

## UDN2981
designator IC?
8-Channel Source Drivers
pins: 1 I1 (in), 2 I2 (in), 3 I3 (in), 4 I4 (in), 5 I5 (in), 6 I6 (in), 7 I7 (in), 8 I8 (in), 9 VS (in), 10 COM (in), 11 O8 (oc), 12 O7 (oc), 13 O6 (oc), 14 O5 (oc), 15 O4 (oc), 16 O3 (oc), 17 O2 (oc), 18 O1 (oc)

## UDN2982
designator IC?
8-Channel Source Drivers
pins: 1 I1 (in), 2 I2 (in), 3 I3 (in), 4 I4 (in), 5 I5 (in), 6 I6 (in), 7 I7 (in), 8 I8 (in), 9 VS (in), 10 COM (in), 11 O8 (oc), 12 O7 (oc), 13 O6 (oc), 14 O5 (oc), 15 O4 (oc), 16 O3 (oc), 17 O2 (oc), 18 O1 (oc)

## ULN2003
designator IC?
Seven darlington array
pins: 1 IN1 (in), 2 IN2 (in), 3 IN3 (in), 4 IN4 (in), 5 IN5 (in), 6 IN6 (in), 7 IN7 (in), 8 GND (in), 9 COM, 10 OUT7 (oc), 11 OUT6 (oc), 12 OUT5 (oc), 13 OUT4 (oc), 14 OUT3 (oc), 15 OUT2 (oc), 16 OUT1 (oc)

## ULN2066B
designator IC?
Quad Darlington Switches
pins: 1 K, 2 C1 (oc), 3 B1 (in), 4 GND (power), 5 GND (power), 6 B2 (in), 7 C2 (oc), 8 K, 9 C3 (oc), 11 B3 (in), 12 GND (power), 13 GND (power), 14 B4 (in), 16 C4 (oc)

## ULN2803
designator IC?
High-Voltage High-Current Darlington Array
pins: 1 I1 (in), 2 I2 (in), 3 I3 (in), 4 I4 (in), 5 I5 (in), 6 I6 (in), 7 I7 (in), 8 I8 (in), 9 GND (in), 10 COM, 11 O8 (oc), 12 O7 (oc), 13 O6 (oc), 14 O5 (oc), 15 O4 (oc), 16 O3 (oc), 17 O2 (oc), 18 O1 (oc)

## ULN2804
designator IC?
High-Voltage High-Current Darlington Array
pins: 1 I1 (in), 2 I2 (in), 3 I3 (in), 4 I4 (in), 5 I5 (in), 6 I6 (in), 7 I7 (in), 8 I8 (in), 9 GND (in), 10 COM, 11 O8 (oc), 12 O7 (oc), 13 O6 (oc), 14 O5 (oc), 15 O4 (oc), 16 O3 (oc), 17 O2 (oc), 18 O1 (oc)

## USB6B1
designator IC?
Data Lines Protection, 2-Input Line Filter + ESD + Vbus, SO-8
pins: 1 VCC (power) "Supply", 2 I/O1 (io) "Input/Output 1", 3 I/O2 (io) "Input/Output 2", 4 GND (power) "Ground", 5 GND (power) "Ground", 6 I/O2 (io) "Input/Output 2", 7 I/O1 (io) "Input/Output 1", 8 VCC (power) "Supply"

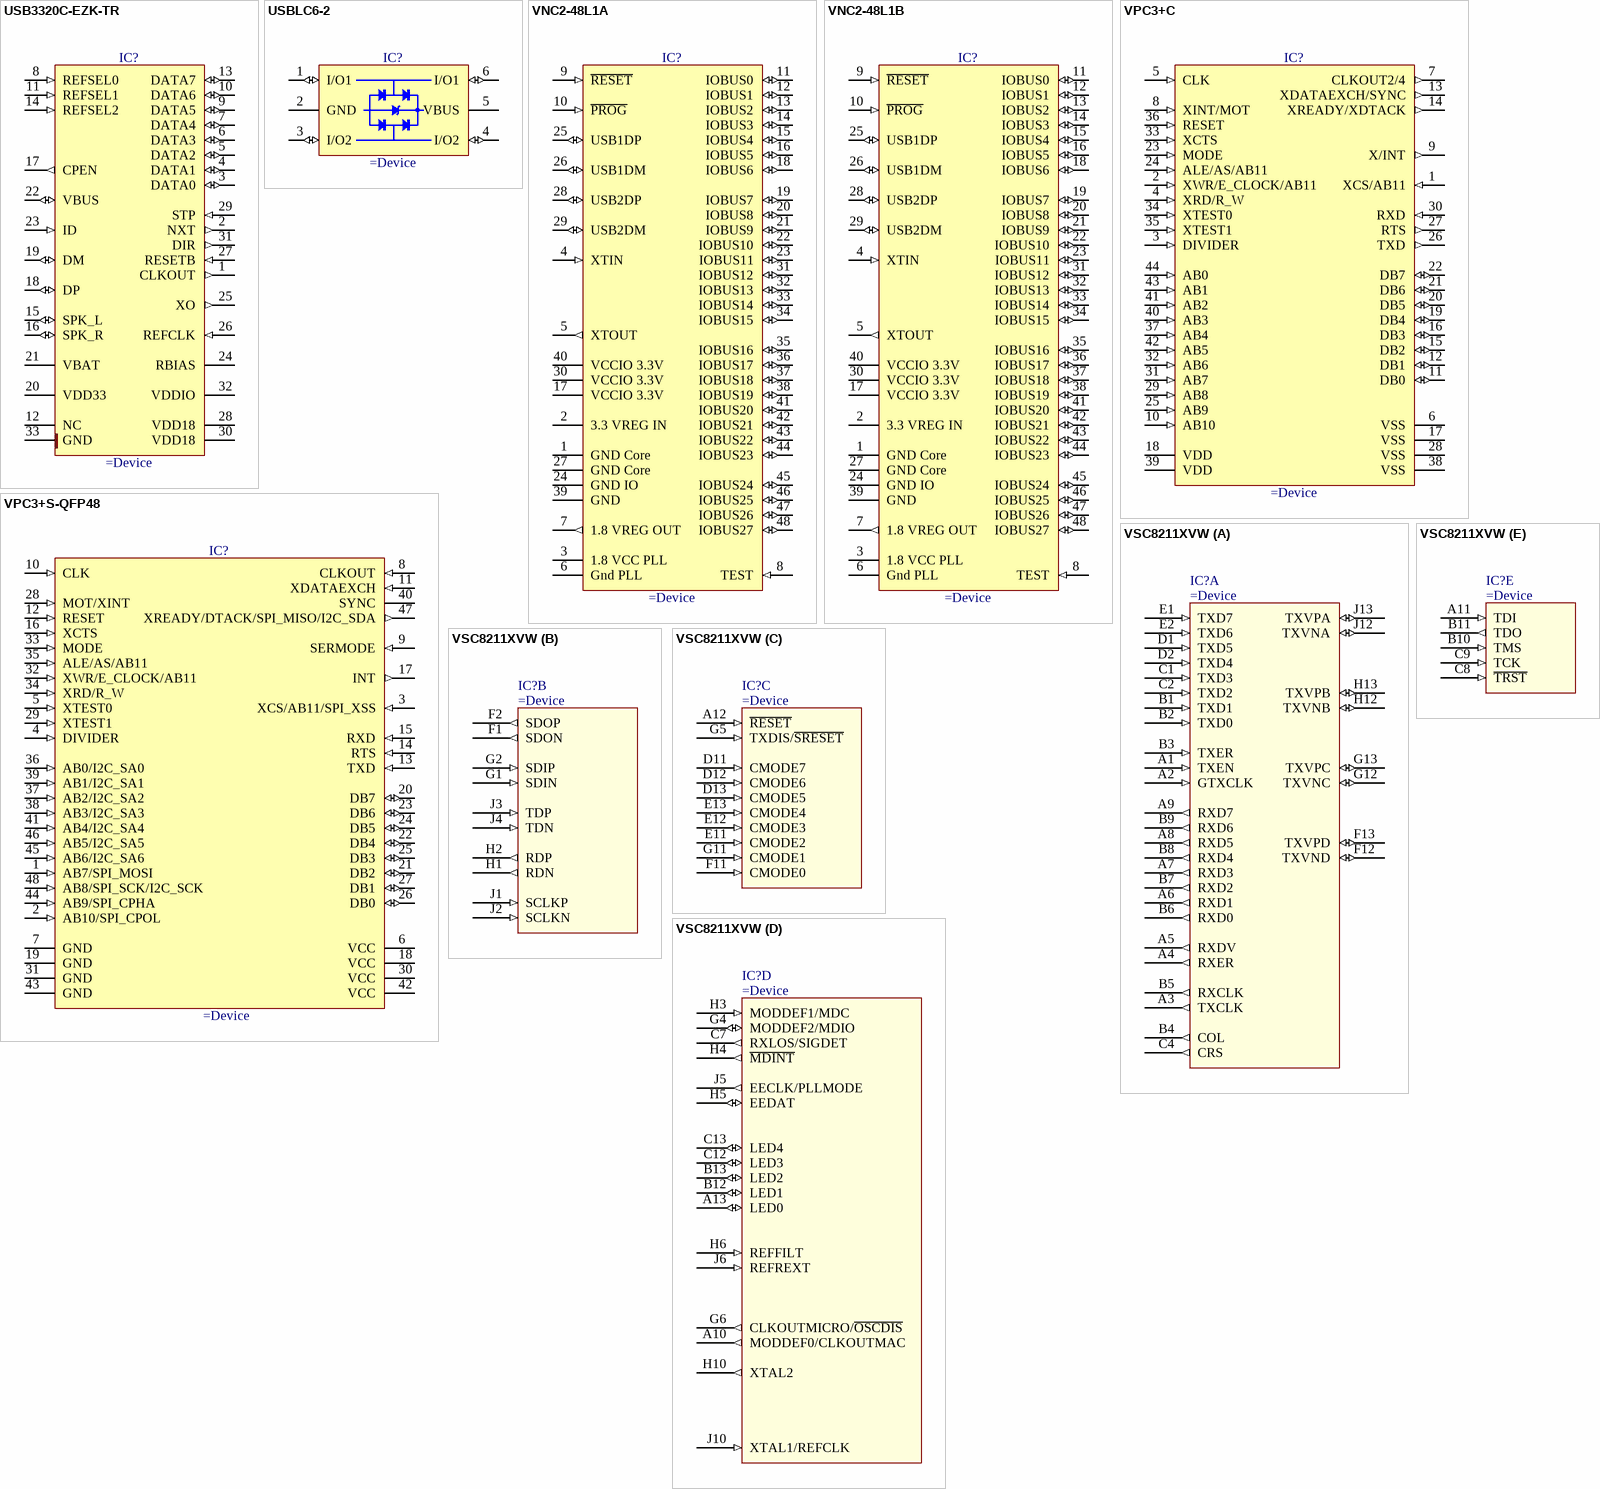
[diagram p66: symbols USB3320C-EZK-TR to VSC8211XVW]

## USB3320C-EZK-TR
designator IC?
Highly Integrated, Full Featured Hi-Speed USB 2.0 ULPI Transceiver
pins: 1 CLKOUT (out), 2 NXT (out), 3 DATA0 (io), 4 DATA1 (io), 5 DATA2 (io), 6 DATA3 (io), 7 DATA4 (io), 8 REFSEL0 (in), 9 DATA5 (io), 10 DATA6 (io), 11 REFSEL1 (in), 12 NC, 13 DATA7 (io), 14 REFSEL2 (in), 15 SPK_L (io), 16 SPK_R (io), 17 CPEN (out), 18 DP (io), 19 DM (io), 20 VDD33 (power), 21 VBAT (power), 22 VBUS (io), 23 ID (in), 24 RBIAS, 25 XO (out), 26 REFCLK (in), 27 RESETB (in), 28 VDD18 (power), 29 STP (in), 30 VDD18 (power), 31 DIR (out), 32 VDDIO (power), 33 GND (power)

## USBLC6-2
designator IC?
2 Data-Line Protection, Very Low Capacitance ESD Protection
pins: 1 I/O1 (io) "Input/Output 1", 2 GND (power) "Ground", 3 I/O2 (io) "Input/Output 2", 4 I/O2 (io) "Input/Output 2", 5 VBUS (power) "Supply", 6 I/O1 (io) "Input/Output 1"

## VNC2-48L1A
designator IC?
Vinculum-II Embedded Dual USB Host Controller
pins: 1 GND Core (power), 2 3.3 VREG IN (power), 3 1.8 VCC PLL (power), 4 XTIN (in), 5 XTOUT (out), 6 Gnd PLL (power), 7 1.8 VREG OUT (out), 8 TEST (in), 9 ~{RESET} (in), 10 ~{PROG} (in), 11 IOBUS0 (io), 12 IOBUS1 (io), 13 IOBUS2 (io), 14 IOBUS3 (io), 15 IOBUS4 (io), 16 IOBUS5 (io), 17 VCCIO 3.3V (power), 18 IOBUS6 (io), 19 IOBUS7 (io), 20 IOBUS8 (io), 21 IOBUS9 (io), 22 IOBUS10 (io), 23 IOBUS11 (io), 24 GND IO (power), 25 USB1DP (io), 26 USB1DM (io), 27 GND Core (power), 28 USB2DP (io), 29 USB2DM (io), 30 VCCIO 3.3V (power), 31 IOBUS12 (io), 32 IOBUS13 (io), 33 IOBUS14 (io), 34 IOBUS15 (io), 35 IOBUS16 (io), 36 IOBUS17 (io), 37 IOBUS18 (io), 38 IOBUS19 (io), 39 GND (power), 40 VCCIO 3.3V (power), 41 IOBUS20 (io), 42 IOBUS21 (io), 43 IOBUS22 (io), 44 IOBUS23 (io), 45 IOBUS24 (io), 46 IOBUS25 (io), 47 IOBUS26 (io), 48 IOBUS27 (io)

## VNC2-48L1B
designator IC?
Vinculum-II Embedded Dual USB Host Controller
pins: 1 GND Core (power), 2 3.3 VREG IN (power), 3 1.8 VCC PLL (power), 4 XTIN (in), 5 XTOUT (out), 6 Gnd PLL (power), 7 1.8 VREG OUT (out), 8 TEST (in), 9 ~{RESET} (in), 10 ~{PROG} (in), 11 IOBUS0 (io), 12 IOBUS1 (io), 13 IOBUS2 (io), 14 IOBUS3 (io), 15 IOBUS4 (io), 16 IOBUS5 (io), 17 VCCIO 3.3V (power), 18 IOBUS6 (io), 19 IOBUS7 (io), 20 IOBUS8 (io), 21 IOBUS9 (io), 22 IOBUS10 (io), 23 IOBUS11 (io), 24 GND IO (power), 25 USB1DP (io), 26 USB1DM (io), 27 GND Core (power), 28 USB2DP (io), 29 USB2DM (io), 30 VCCIO 3.3V (power), 31 IOBUS12 (io), 32 IOBUS13 (io), 33 IOBUS14 (io), 34 IOBUS15 (io), 35 IOBUS16 (io), 36 IOBUS17 (io), 37 IOBUS18 (io), 38 IOBUS19 (io), 39 GND (power), 40 VCCIO 3.3V (power), 41 IOBUS20 (io), 42 IOBUS21 (io), 43 IOBUS22 (io), 44 IOBUS23 (io), 45 IOBUS24 (io), 46 IOBUS25 (io), 47 IOBUS26 (io), 48 IOBUS27 (io)

## VPC3+C
designator IC?
PROFIBUS-DP Slave Controller
pins: 1 XCS/AB11 (in), 2 XWR/E_CLOCK/AB11 (in), 3 DIVIDER (in), 4 XRD/R_W (in), 5 CLK (in), 6 VSS (power), 7 CLKOUT2/4 (out), 8 XINT/MOT (in), 9 X/INT (out), 10 AB10 (in), 11 DB0 (io), 12 DB1 (io), 13 XDATAEXCH/SYNC (out), 14 XREADY/XDTACK (out), 15 DB2 (io), 16 DB3 (io), 17 VSS (power), 18 VDD (power), 19 DB4 (io), 20 DB5 (io), 21 DB6 (io), 22 DB7 (io), 23 MODE (in), 24 ALE/AS/AB11 (in), 25 AB9 (in), 26 TXD (out), 27 RTS (out), 28 VSS (power), 29 AB8 (in), 30 RXD (in), 31 AB7 (in), 32 AB6 (in), 33 XCTS (in), 34 XTEST0 (in), 35 XTEST1 (in), 36 RESET (in), 37 AB4 (in), 38 VSS (power), 39 VDD (power), 40 AB3 (in), 41 AB2 (in), 42 AB5 (in), 43 AB1 (in), 44 AB0 (in)

## VPC3+S-QFP48
designator IC?
PROFIBUS-DP Slave Controller
pins: 1 AB7/SPI_MOSI (in), 2 AB10/SPI_CPOL (in), 3 XCS/AB11/SPI_XSS (in), 4 DIVIDER (in), 5 XTEST0 (in), 6 VCC (power), 7 GND (power), 8 CLKOUT (in), 9 SERMODE (in), 10 CLK (in), 11 XDATAEXCH (in), 12 RESET (in), 13 TXD (in), 14 RTS (in), 15 RXD (in), 16 XCTS (in), 17 INT (out), 18 VCC (power), 19 GND (power), 20 DB7 (io), 21 DB2 (io), 22 DB4 (io), 23 DB6 (io), 24 DB5 (io), 25 DB3 (io), 26 DB0 (io), 27 DB1 (io), 28 MOT/XINT (in), 29 XTEST1 (in), 30 VCC (power), 31 GND (power), 32 XWR/E_CLOCK/AB11 (in), 33 MODE (in), 34 XRD/R_W (in), 35 ALE/AS/AB11 (in), 36 AB0/I2C_SA0 (in), 37 AB2/I2C_SA2 (in), 38 AB3/I2C_SA3 (in), 39 AB1/I2C_SA1 (in), 40 SYNC (power), 41 AB4/I2C_SA4 (in), 42 VCC (power), 43 GND (power), 44 AB9/SPI_CPHA (in), 45 AB6/I2C_SA6 (in), 46 AB5/I2C_SA5 (in), 47 XREADY/DTACK/SPI_MISO/I2C_SDA (out), 48 AB8/SPI_SCK/I2C_SCK (in)

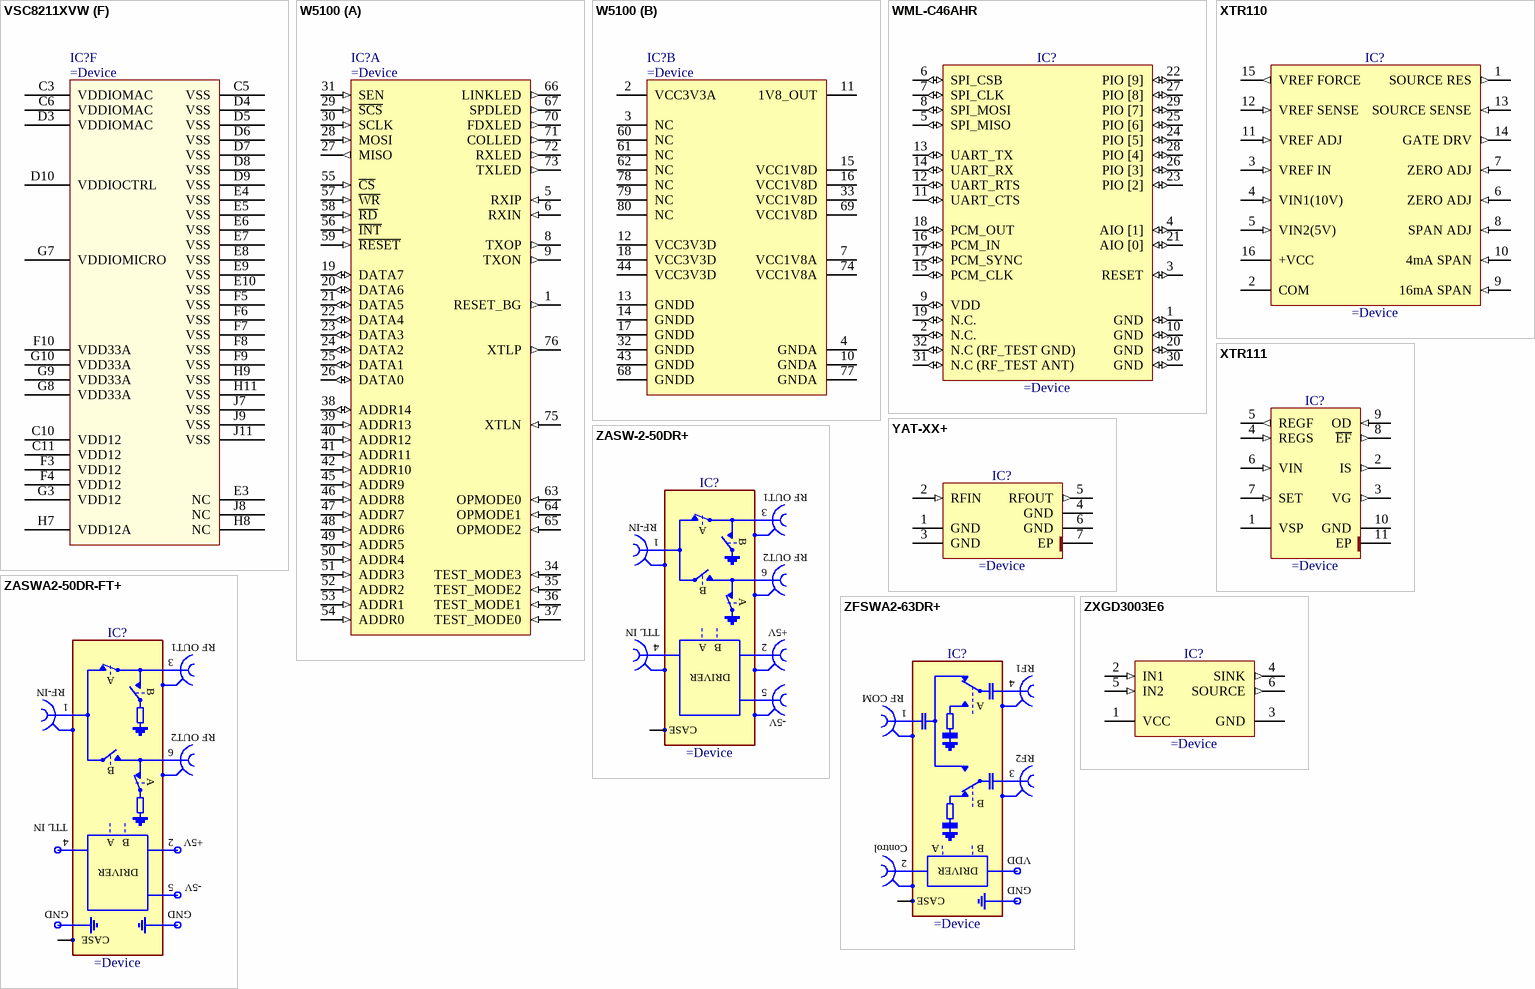
[diagram p67: symbols VSC8211XVW to ZXGD3003E6]

## VSC8211XVW
designator IC?
Single Port 10/100/1000BASE-T PHY and 1000BASE-X PHY with SGMII, SerDes, GMII, MII, TBI, RGMII / RTBI MAC Interfaces
part A pins: A1 TXEN (in), A2 GTXCLK (in), A3 TXCLK (out), A4 RXER (out), A5 RXDV (out), A6 RXD1 (out), A7 RXD3 (out), A8 RXD5 (out), A9 RXD7 (out), B1 TXD1 (in), B2 TXD0 (in), B3 TXER (in), B4 COL (out), B5 RXCLK (out), B6 RXD0 (out), B7 RXD2 (out), B8 RXD4 (out), B9 RXD6 (out), C1 TXD3 (in), C2 TXD2 (in), C4 CRS (out), D1 TXD5 (in), D2 TXD4 (in), E1 TXD7 (in), E2 TXD6 (in), F12 TXVND (io), F13 TXVPD (io), G12 TXVNC (io), G13 TXVPC (io), H12 TXVNB (io), H13 TXVPB (io), J12 TXVNA (io), J13 TXVPA (io)
part B pins: F1 SDON (out), F2 SDOP (out), G1 SDIN (in), G2 SDIP (in), H1 RDN (out), H2 RDP (out), J1 SCLKP (in), J2 SCLKN (in), J3 TDP (in), J4 TDN (in)
part C pins: A12 ~{RESET} (in), D11 CMODE7 (in), D12 CMODE6 (in), D13 CMODE5 (in), E11 CMODE2 (in), E12 CMODE3 (in), E13 CMODE4 (in), F11 CMODE0 (in), G5 TXDIS/~{SRESET} (in), G11 CMODE1 (in)
part D pins: A10 MODDEF0/CLKOUTMAC (out), A13 LED0 (io), B12 LED1 (io), B13 LED2 (io), C7 RXLOS/SIGDET (out), C12 LED3 (io), C13 LED4 (io), G4 MODDEF2/MDIO (io), G6 CLKOUTMICRO/~{OSCDIS} (out), H3 MODDEF1/MDC (in), H4 ~{MDINT} (out), H5 EEDAT (io), H6 REFFILT (in), H10 XTAL2 (out), J5 EECLK/PLLMODE (out), J6 REFREXT (in), J10 XTAL1/REFCLK (in)
part E pins: A11 TDI (in), B10 TMS (in), B11 TDO (out), C8 ~{TRST} (in), C9 TCK (in)
part F pins: C3 VDDIOMAC, C5 VSS, C6 VDDIOMAC, C10 VDD12, C11 VDD12, D3 VDDIOMAC, D4 VSS, D5 VSS, D6 VSS, D7 VSS, D8 VSS, D9 VSS, D10 VDDIOCTRL, E3 NC, E4 VSS, E5 VSS, E6 VSS, E7 VSS, E8 VSS, E9 VSS, E10 VSS, F3 VDD12, F4 VDD12, F5 VSS, F6 VSS, F7 VSS, F8 VSS, F9 VSS, F10 VDD33A, G3 VDD12, G7 VDDIOMICRO, G8 VDD33A, G9 VDD33A, G10 VDD33A, H7 VDD12A, H8 NC, H9 VSS, H11 VSS, J7 VSS, J8 NC, J9 VSS, J11 VSS

## W5100
designator IC?
iEthernet W5200 Fast SPI Ethernet Controller
part A pins: 1 RESET_BG (out), 5 RXIP (in), 6 RXIN (in), 8 TXOP (out), 9 TXON (out), 19 DATA7 (io), 20 DATA6 (io), 21 DATA5 (io), 22 DATA4 (io), 23 DATA3 (io), 24 DATA2 (io), 25 DATA1 (io), 26 DATA0 (io), 27 MISO (out), 28 MOSI (in), 29 ~{SCS} (in), 30 SCLK (in), 31 SEN (in), 34 TEST_MODE3 (in), 35 TEST_MODE2 (in), 36 TEST_MODE1 (in), 37 TEST_MODE0 (in), 38 ADDR14 (io), 39 ADDR13 (in), 40 ADDR12 (in), 41 ADDR11 (in), 42 ADDR10 (in), 45 ADDR9 (in), 46 ADDR8 (in), 47 ADDR7 (in), 48 ADDR6 (in), 49 ADDR5 (in), 50 ADDR4 (in), 51 ADDR3 (in), 52 ADDR2 (in), 53 ADDR1 (in), 54 ADDR0 (in), 55 ~{CS} (in), 56 ~{INT} (in), 57 ~{WR} (in), 58 ~{RD} (in), 59 ~{RESET} (in), 63 OPMODE0 (in), 64 OPMODE1 (in), 65 OPMODE2 (in), 66 LINKLED (out), 67 SPDLED (out), 70 FDXLED (out), 71 COLLED (out), 72 RXLED (out), 73 TXLED (out), 75 XTLN (in), 76 XTLP (out)
part B pins: 2 VCC3V3A (power), 3 NC, 4 GNDA (power), 7 VCC1V8A (power), 10 GNDA (power), 11 1V8_OUT (power), 12 VCC3V3D (power), 13 GNDD (power), 14 GNDD (power), 15 VCC1V8D (power), 16 VCC1V8D (power), 17 GNDD (power), 18 VCC3V3D (power), 32 GNDD (power), 33 VCC1V8D (power), 43 GNDD (power), 44 VCC3V3D (power), 60 NC, 61 NC, 62 NC, 68 GNDD (power), 69 VCC1V8D (power), 74 VCC1V8A (power), 77 GNDA (power), 78 NC, 79 NC, 80 NC

## WML-C46AHR
designator IC?
Bluetooth Wireless Communications Module
pins: 1 GND (io), 2 N.C. (io), 3 RESET (io), 4 AIO [1] (io), 5 SPI_MISO (io), 6 SPI_CSB (io), 7 SPI_CLK (io), 8 SPI_MOSI (io), 9 VDD (io), 10 GND (io), 11 UART_CTS (io), 12 UART_RTS (io), 13 UART_TX (io), 14 UART_RX (io), 15 PCM_CLK (io), 16 PCM_IN (io), 17 PCM_SYNC (io), 18 PCM_OUT (io), 19 N.C. (io), 20 GND (io), 21 AIO [0] (io), 22 PIO [9] (io), 23 PIO [2] (io), 24 PIO [5] (io), 25 PIO [6] (io), 26 PIO [3] (io), 27 PIO [8] (io), 28 PIO [4] (io), 29 PIO [7] (io), 30 GND (io), 31 N.C (RF_TEST ANT) (io), 32 N.C (RF_TEST GND) (io)

## XTR110
designator IC?
Precision Voltage-to-Current Converter/Transmitter
pins: 1 SOURCE RES (out), 2 COM (power), 3 VREF IN (in), 4 VIN1(10V) (in), 5 VIN2(5V) (in), 6 ZERO ADJ (in), 7 ZERO ADJ (in), 8 SPAN ADJ (in), 9 16mA SPAN (in), 10 4mA SPAN (in), 11 VREF ADJ (in), 12 VREF SENSE (in), 13 SOURCE SENSE (in), 14 GATE DRV (out), 15 VREF FORCE (out), 16 +VCC (power)

## XTR111
designator IC?
Precision Voltage-to-Current Converter/Transmitter
pins: 1 VSP (power), 2 IS (out), 3 VG (out), 4 REGS (in), 5 REGF (out), 6 VIN (in), 7 SET (in), 8 ~{EF} (out), 9 OD (in), 10 GND (power), 11 EP (power)

## YAT-XX+
designator IC?
DC to 18GHz, 2W, 50 Ohm, 4dB Attenuator
pins: 1 GND (power), 2 RFIN (in), 3 GND (power), 4 GND (power), 5 RFOUT (out), 6 GND (power), 7 EP (power)

## ZASW-2-50DR+
designator IC?
High Isolation Switch, 50 Ohms SPDT, TTL Driver, Reflective DC to 5GHz
pins: CASE
text: RF OUT1; 3; RF-IN; A; 1; B; RF OUT2; 6; TTL IN; +5V; 4; 2; DRIVER; 5; -5V

## ZASWA2-50DR-FT+
designator IC?
High Isolation Switch, 50 Ohms SPDT, TTL Driver, Reflective DC to 5GHz
pins: CASE
text: RF OUT1; 3; A; RF-IN; B; 1; RF OUT2; 6; TTL IN; 4; 2; +5V; DRIVER; 5; -5V; GND

## ZFSWA2-63DR+
designator IC?
Absorptive SPDT Solid State RF Switch, 500 to 6000MHz, With Bracket
pins: CASE
text: RF1; 4; RF COM; A; 1; RF2; 3; B; Control; 2; VDD; DRIVER; GND

## ZXGD3003E6
designator IC?
5A(Peak) Gate Driver
pins: 1 VCC (power), 2 IN1 (in), 3 GND (power), 4 SINK (out), 5 IN2 (in), 6 SOURCE (out)